# Altium integrated library Altera MAX V.IntLib: 184 symbols (part 1 of 16)
Pins are listed as number, name and electrical type; pins without a type are passive.

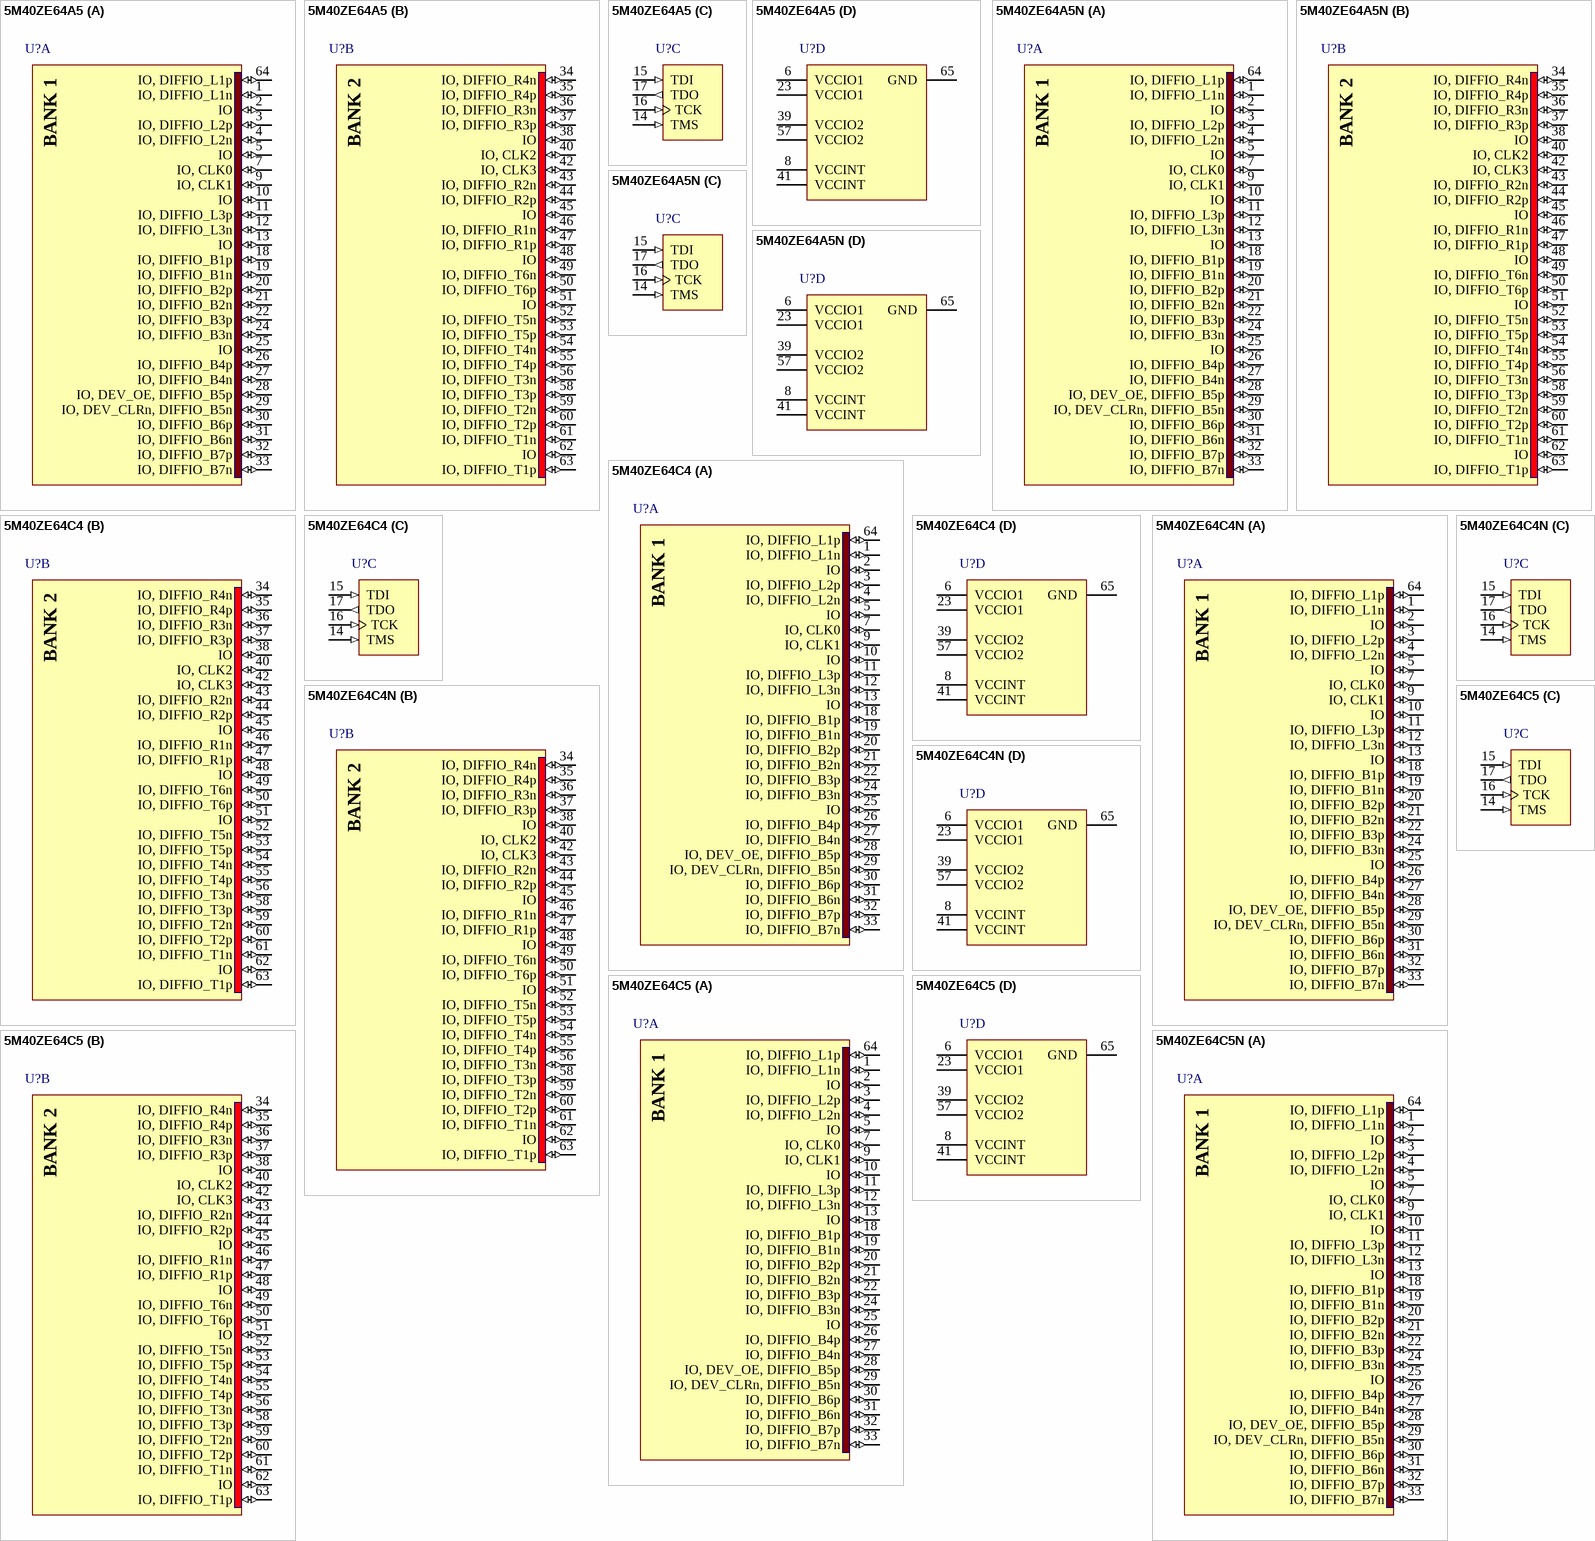
[diagram p0: symbols 5M40ZE64A5 to 5M40ZE64C5N]

## 5M40ZE64A5
designator U?
MAX V 1.8V CPLD, 54 IOs, 40 Logic Elements, 64-Pin EQFP, Automotive Temperature, Speed Grade 5; DatasheetVersion: ver1.2, May-2011; PackageVersion: ver1.0, Jul-2011; PackageReference: EQFP64_A-120_D2-45; PackageDescription: 64-Pin Plastic Enhanced Quad Flat (EQFP) - Wire Bond - A:1.20 - D2:4.5; Code_JEDEC: MS-026-ABD-HD; ComponentLink1Description: Manufacturer URL; ComponentLink1URL: http://www.altera.com/; ComponentLink2Description: Datasheet; ComponentLink2URL: http://www.altera.com/literature/hb/max-v/max5_handbook.pdf; ComponentLink3Description: MAX V Device Pin-Out files; ComponentLink3URL: http://www.altera.com/literature/lit-dp.jsp?category=MAX%205&showspreadsheet=y; ComponentLink4Description: Package Specification; ComponentLink4URL: http://www.altera.com/devicepackaging/04R00384-01.pdf
footprint EQFP64_A-120_D2-45_N (Thin QFP, 64-Leads, Body 7x7mm, Pitch 0.4mm, Thermal Pad, IPC Medium Density)
footprint EQFP64_A-120_D2-45_L (Thin QFP, 64-Leads, Body 7x7mm, Pitch 0.4mm, Thermal Pad, IPC High Density)
footprint EQFP64_A-120_D2-45_M (Thin QFP, 64-Leads, Body 7x7mm, Pitch 0.4mm, Thermal Pad, IPC Low Density)
part A pins: 1 IO, DIFFIO_L1n (io), 2 IO (io), 3 IO, DIFFIO_L2p (io), 4 IO, DIFFIO_L2n (io), 5 IO (io), 7 IO, CLK0 (io), 9 IO, CLK1 (io), 10 IO (io), 11 IO, DIFFIO_L3p (io), 12 IO, DIFFIO_L3n (io), 13 IO (io), 18 IO, DIFFIO_B1p (io), 19 IO, DIFFIO_B1n (io), 20 IO, DIFFIO_B2p (io), 21 IO, DIFFIO_B2n (io), 22 IO, DIFFIO_B3p (io), 24 IO, DIFFIO_B3n (io), 25 IO (io), 26 IO, DIFFIO_B4p (io), 27 IO, DIFFIO_B4n (io), 28 IO, DEV_OE, DIFFIO_B5p (io), 29 IO, DEV_CLRn, DIFFIO_B5n (io), 30 IO, DIFFIO_B6p (io), 31 IO, DIFFIO_B6n (io), 32 IO, DIFFIO_B7p (io), 33 IO, DIFFIO_B7n (io), 64 IO, DIFFIO_L1p (io)
part B pins: 34 IO, DIFFIO_R4n (io), 35 IO, DIFFIO_R4p (io), 36 IO, DIFFIO_R3n (io), 37 IO, DIFFIO_R3p (io), 38 IO (io), 40 IO, CLK2 (io), 42 IO, CLK3 (io), 43 IO, DIFFIO_R2n (io), 44 IO, DIFFIO_R2p (io), 45 IO (io), 46 IO, DIFFIO_R1n (io), 47 IO, DIFFIO_R1p (io), 48 IO (io), 49 IO, DIFFIO_T6n (io), 50 IO, DIFFIO_T6p (io), 51 IO (io), 52 IO, DIFFIO_T5n (io), 53 IO, DIFFIO_T5p (io), 54 IO, DIFFIO_T4n (io), 55 IO, DIFFIO_T4p (io), 56 IO, DIFFIO_T3n (io), 58 IO, DIFFIO_T3p (io), 59 IO, DIFFIO_T2n (io), 60 IO, DIFFIO_T2p (io), 61 IO, DIFFIO_T1n (io), 62 IO (io), 63 IO, DIFFIO_T1p (io)
part C pins: 14 TMS (in), 15 TDI (in), 16 TCK (in), 17 TDO (out)
part D pins: 6 VCCIO1 (power), 8 VCCINT (power), 23 VCCIO1 (power), 39 VCCIO2 (power), 41 VCCINT (power), 57 VCCIO2 (power), 65 GND (power)
part A text: BANK 1
part B text: BANK 2

## 5M40ZE64A5N
designator U?
MAX V 1.8V CPLD, 54 IOs, 40 Logic Elements, 64-Pin EQFP, Automotive Temperature, Speed Grade 5, Pb-Free; DatasheetVersion: ver1.2, May-2011; PackageVersion: ver1.0, Jul-2011; PackageReference: EQFP64_A-120_D2-45; PackageDescription: 64-Pin Plastic Enhanced Quad Flat (EQFP) - Wire Bond - A:1.20 - D2:4.5; Code_JEDEC: MS-026-ABD-HD; ComponentLink1Description: Manufacturer URL; ComponentLink1URL: http://www.altera.com/; ComponentLink2Description: Datasheet; ComponentLink2URL: http://www.altera.com/literature/hb/max-v/max5_handbook.pdf; ComponentLink3Description: MAX V Device Pin-Out files; ComponentLink3URL: http://www.altera.com/literature/lit-dp.jsp?category=MAX%205&showspreadsheet=y; ComponentLink4Description: Package Specification; ComponentLink4URL: http://www.altera.com/devicepackaging/04R00384-01.pdf
footprint EQFP64_A-120_D2-45_N (Thin QFP, 64-Leads, Body 7x7mm, Pitch 0.4mm, Thermal Pad, IPC Medium Density)
footprint EQFP64_A-120_D2-45_L (Thin QFP, 64-Leads, Body 7x7mm, Pitch 0.4mm, Thermal Pad, IPC High Density)
footprint EQFP64_A-120_D2-45_M (Thin QFP, 64-Leads, Body 7x7mm, Pitch 0.4mm, Thermal Pad, IPC Low Density)
part A pins: 1 IO, DIFFIO_L1n (io), 2 IO (io), 3 IO, DIFFIO_L2p (io), 4 IO, DIFFIO_L2n (io), 5 IO (io), 7 IO, CLK0 (io), 9 IO, CLK1 (io), 10 IO (io), 11 IO, DIFFIO_L3p (io), 12 IO, DIFFIO_L3n (io), 13 IO (io), 18 IO, DIFFIO_B1p (io), 19 IO, DIFFIO_B1n (io), 20 IO, DIFFIO_B2p (io), 21 IO, DIFFIO_B2n (io), 22 IO, DIFFIO_B3p (io), 24 IO, DIFFIO_B3n (io), 25 IO (io), 26 IO, DIFFIO_B4p (io), 27 IO, DIFFIO_B4n (io), 28 IO, DEV_OE, DIFFIO_B5p (io), 29 IO, DEV_CLRn, DIFFIO_B5n (io), 30 IO, DIFFIO_B6p (io), 31 IO, DIFFIO_B6n (io), 32 IO, DIFFIO_B7p (io), 33 IO, DIFFIO_B7n (io), 64 IO, DIFFIO_L1p (io)
part B pins: 34 IO, DIFFIO_R4n (io), 35 IO, DIFFIO_R4p (io), 36 IO, DIFFIO_R3n (io), 37 IO, DIFFIO_R3p (io), 38 IO (io), 40 IO, CLK2 (io), 42 IO, CLK3 (io), 43 IO, DIFFIO_R2n (io), 44 IO, DIFFIO_R2p (io), 45 IO (io), 46 IO, DIFFIO_R1n (io), 47 IO, DIFFIO_R1p (io), 48 IO (io), 49 IO, DIFFIO_T6n (io), 50 IO, DIFFIO_T6p (io), 51 IO (io), 52 IO, DIFFIO_T5n (io), 53 IO, DIFFIO_T5p (io), 54 IO, DIFFIO_T4n (io), 55 IO, DIFFIO_T4p (io), 56 IO, DIFFIO_T3n (io), 58 IO, DIFFIO_T3p (io), 59 IO, DIFFIO_T2n (io), 60 IO, DIFFIO_T2p (io), 61 IO, DIFFIO_T1n (io), 62 IO (io), 63 IO, DIFFIO_T1p (io)
part C pins: 14 TMS (in), 15 TDI (in), 16 TCK (in), 17 TDO (out)
part D pins: 6 VCCIO1 (power), 8 VCCINT (power), 23 VCCIO1 (power), 39 VCCIO2 (power), 41 VCCINT (power), 57 VCCIO2 (power), 65 GND (power)
part A text: BANK 1
part B text: BANK 2

## 5M40ZE64C4
designator U?
MAX V 1.8V CPLD, 54 IOs, 40 Logic Elements, 64-Pin EQFP, Commercial Temperature, Speed Grade 4; DatasheetVersion: ver1.2, May-2011; PackageVersion: ver1.0, Jul-2011; PackageReference: EQFP64_A-120_D2-45; PackageDescription: 64-Pin Plastic Enhanced Quad Flat (EQFP) - Wire Bond - A:1.20 - D2:4.5; Code_JEDEC: MS-026-ABD-HD; ComponentLink1Description: Manufacturer URL; ComponentLink1URL: http://www.altera.com/; ComponentLink2Description: Datasheet; ComponentLink2URL: http://www.altera.com/literature/hb/max-v/max5_handbook.pdf; ComponentLink3Description: MAX V Device Pin-Out files; ComponentLink3URL: http://www.altera.com/literature/lit-dp.jsp?category=MAX%205&showspreadsheet=y; ComponentLink4Description: Package Specification; ComponentLink4URL: http://www.altera.com/devicepackaging/04R00384-01.pdf
footprint EQFP64_A-120_D2-45_N (Thin QFP, 64-Leads, Body 7x7mm, Pitch 0.4mm, Thermal Pad, IPC Medium Density)
footprint EQFP64_A-120_D2-45_L (Thin QFP, 64-Leads, Body 7x7mm, Pitch 0.4mm, Thermal Pad, IPC High Density)
footprint EQFP64_A-120_D2-45_M (Thin QFP, 64-Leads, Body 7x7mm, Pitch 0.4mm, Thermal Pad, IPC Low Density)
part A pins: 1 IO, DIFFIO_L1n (io), 2 IO (io), 3 IO, DIFFIO_L2p (io), 4 IO, DIFFIO_L2n (io), 5 IO (io), 7 IO, CLK0 (io), 9 IO, CLK1 (io), 10 IO (io), 11 IO, DIFFIO_L3p (io), 12 IO, DIFFIO_L3n (io), 13 IO (io), 18 IO, DIFFIO_B1p (io), 19 IO, DIFFIO_B1n (io), 20 IO, DIFFIO_B2p (io), 21 IO, DIFFIO_B2n (io), 22 IO, DIFFIO_B3p (io), 24 IO, DIFFIO_B3n (io), 25 IO (io), 26 IO, DIFFIO_B4p (io), 27 IO, DIFFIO_B4n (io), 28 IO, DEV_OE, DIFFIO_B5p (io), 29 IO, DEV_CLRn, DIFFIO_B5n (io), 30 IO, DIFFIO_B6p (io), 31 IO, DIFFIO_B6n (io), 32 IO, DIFFIO_B7p (io), 33 IO, DIFFIO_B7n (io), 64 IO, DIFFIO_L1p (io)
part B pins: 34 IO, DIFFIO_R4n (io), 35 IO, DIFFIO_R4p (io), 36 IO, DIFFIO_R3n (io), 37 IO, DIFFIO_R3p (io), 38 IO (io), 40 IO, CLK2 (io), 42 IO, CLK3 (io), 43 IO, DIFFIO_R2n (io), 44 IO, DIFFIO_R2p (io), 45 IO (io), 46 IO, DIFFIO_R1n (io), 47 IO, DIFFIO_R1p (io), 48 IO (io), 49 IO, DIFFIO_T6n (io), 50 IO, DIFFIO_T6p (io), 51 IO (io), 52 IO, DIFFIO_T5n (io), 53 IO, DIFFIO_T5p (io), 54 IO, DIFFIO_T4n (io), 55 IO, DIFFIO_T4p (io), 56 IO, DIFFIO_T3n (io), 58 IO, DIFFIO_T3p (io), 59 IO, DIFFIO_T2n (io), 60 IO, DIFFIO_T2p (io), 61 IO, DIFFIO_T1n (io), 62 IO (io), 63 IO, DIFFIO_T1p (io)
part C pins: 14 TMS (in), 15 TDI (in), 16 TCK (in), 17 TDO (out)
part D pins: 6 VCCIO1 (power), 8 VCCINT (power), 23 VCCIO1 (power), 39 VCCIO2 (power), 41 VCCINT (power), 57 VCCIO2 (power), 65 GND (power)
part A text: BANK 1
part B text: BANK 2

## 5M40ZE64C4N
designator U?
MAX V 1.8V CPLD, 54 IOs, 40 Logic Elements, 64-Pin EQFP, Commercial Temperature, Speed Grade 4, Pb-Free; DatasheetVersion: ver1.2, May-2011; PackageVersion: ver1.0, Jul-2011; PackageReference: EQFP64_A-120_D2-45; PackageDescription: 64-Pin Plastic Enhanced Quad Flat (EQFP) - Wire Bond - A:1.20 - D2:4.5; Code_JEDEC: MS-026-ABD-HD; ComponentLink1Description: Manufacturer URL; ComponentLink1URL: http://www.altera.com/; ComponentLink2Description: Datasheet; ComponentLink2URL: http://www.altera.com/literature/hb/max-v/max5_handbook.pdf; ComponentLink3Description: MAX V Device Pin-Out files; ComponentLink3URL: http://www.altera.com/literature/lit-dp.jsp?category=MAX%205&showspreadsheet=y; ComponentLink4Description: Package Specification; ComponentLink4URL: http://www.altera.com/devicepackaging/04R00384-01.pdf
footprint EQFP64_A-120_D2-45_N (Thin QFP, 64-Leads, Body 7x7mm, Pitch 0.4mm, Thermal Pad, IPC Medium Density)
footprint EQFP64_A-120_D2-45_L (Thin QFP, 64-Leads, Body 7x7mm, Pitch 0.4mm, Thermal Pad, IPC High Density)
footprint EQFP64_A-120_D2-45_M (Thin QFP, 64-Leads, Body 7x7mm, Pitch 0.4mm, Thermal Pad, IPC Low Density)
part A pins: 1 IO, DIFFIO_L1n (io), 2 IO (io), 3 IO, DIFFIO_L2p (io), 4 IO, DIFFIO_L2n (io), 5 IO (io), 7 IO, CLK0 (io), 9 IO, CLK1 (io), 10 IO (io), 11 IO, DIFFIO_L3p (io), 12 IO, DIFFIO_L3n (io), 13 IO (io), 18 IO, DIFFIO_B1p (io), 19 IO, DIFFIO_B1n (io), 20 IO, DIFFIO_B2p (io), 21 IO, DIFFIO_B2n (io), 22 IO, DIFFIO_B3p (io), 24 IO, DIFFIO_B3n (io), 25 IO (io), 26 IO, DIFFIO_B4p (io), 27 IO, DIFFIO_B4n (io), 28 IO, DEV_OE, DIFFIO_B5p (io), 29 IO, DEV_CLRn, DIFFIO_B5n (io), 30 IO, DIFFIO_B6p (io), 31 IO, DIFFIO_B6n (io), 32 IO, DIFFIO_B7p (io), 33 IO, DIFFIO_B7n (io), 64 IO, DIFFIO_L1p (io)
part B pins: 34 IO, DIFFIO_R4n (io), 35 IO, DIFFIO_R4p (io), 36 IO, DIFFIO_R3n (io), 37 IO, DIFFIO_R3p (io), 38 IO (io), 40 IO, CLK2 (io), 42 IO, CLK3 (io), 43 IO, DIFFIO_R2n (io), 44 IO, DIFFIO_R2p (io), 45 IO (io), 46 IO, DIFFIO_R1n (io), 47 IO, DIFFIO_R1p (io), 48 IO (io), 49 IO, DIFFIO_T6n (io), 50 IO, DIFFIO_T6p (io), 51 IO (io), 52 IO, DIFFIO_T5n (io), 53 IO, DIFFIO_T5p (io), 54 IO, DIFFIO_T4n (io), 55 IO, DIFFIO_T4p (io), 56 IO, DIFFIO_T3n (io), 58 IO, DIFFIO_T3p (io), 59 IO, DIFFIO_T2n (io), 60 IO, DIFFIO_T2p (io), 61 IO, DIFFIO_T1n (io), 62 IO (io), 63 IO, DIFFIO_T1p (io)
part C pins: 14 TMS (in), 15 TDI (in), 16 TCK (in), 17 TDO (out)
part D pins: 6 VCCIO1 (power), 8 VCCINT (power), 23 VCCIO1 (power), 39 VCCIO2 (power), 41 VCCINT (power), 57 VCCIO2 (power), 65 GND (power)
part A text: BANK 1
part B text: BANK 2

## 5M40ZE64C5
designator U?
MAX V 1.8V CPLD, 54 IOs, 40 Logic Elements, 64-Pin EQFP, Commercial Temperature, Speed Grade 5; DatasheetVersion: ver1.2, May-2011; PackageVersion: ver1.0, Jul-2011; PackageReference: EQFP64_A-120_D2-45; PackageDescription: 64-Pin Plastic Enhanced Quad Flat (EQFP) - Wire Bond - A:1.20 - D2:4.5; Code_JEDEC: MS-026-ABD-HD; ComponentLink1Description: Manufacturer URL; ComponentLink1URL: http://www.altera.com/; ComponentLink2Description: Datasheet; ComponentLink2URL: http://www.altera.com/literature/hb/max-v/max5_handbook.pdf; ComponentLink3Description: MAX V Device Pin-Out files; ComponentLink3URL: http://www.altera.com/literature/lit-dp.jsp?category=MAX%205&showspreadsheet=y; ComponentLink4Description: Package Specification; ComponentLink4URL: http://www.altera.com/devicepackaging/04R00384-01.pdf
footprint EQFP64_A-120_D2-45_N (Thin QFP, 64-Leads, Body 7x7mm, Pitch 0.4mm, Thermal Pad, IPC Medium Density)
footprint EQFP64_A-120_D2-45_L (Thin QFP, 64-Leads, Body 7x7mm, Pitch 0.4mm, Thermal Pad, IPC High Density)
footprint EQFP64_A-120_D2-45_M (Thin QFP, 64-Leads, Body 7x7mm, Pitch 0.4mm, Thermal Pad, IPC Low Density)
part A pins: 1 IO, DIFFIO_L1n (io), 2 IO (io), 3 IO, DIFFIO_L2p (io), 4 IO, DIFFIO_L2n (io), 5 IO (io), 7 IO, CLK0 (io), 9 IO, CLK1 (io), 10 IO (io), 11 IO, DIFFIO_L3p (io), 12 IO, DIFFIO_L3n (io), 13 IO (io), 18 IO, DIFFIO_B1p (io), 19 IO, DIFFIO_B1n (io), 20 IO, DIFFIO_B2p (io), 21 IO, DIFFIO_B2n (io), 22 IO, DIFFIO_B3p (io), 24 IO, DIFFIO_B3n (io), 25 IO (io), 26 IO, DIFFIO_B4p (io), 27 IO, DIFFIO_B4n (io), 28 IO, DEV_OE, DIFFIO_B5p (io), 29 IO, DEV_CLRn, DIFFIO_B5n (io), 30 IO, DIFFIO_B6p (io), 31 IO, DIFFIO_B6n (io), 32 IO, DIFFIO_B7p (io), 33 IO, DIFFIO_B7n (io), 64 IO, DIFFIO_L1p (io)
part B pins: 34 IO, DIFFIO_R4n (io), 35 IO, DIFFIO_R4p (io), 36 IO, DIFFIO_R3n (io), 37 IO, DIFFIO_R3p (io), 38 IO (io), 40 IO, CLK2 (io), 42 IO, CLK3 (io), 43 IO, DIFFIO_R2n (io), 44 IO, DIFFIO_R2p (io), 45 IO (io), 46 IO, DIFFIO_R1n (io), 47 IO, DIFFIO_R1p (io), 48 IO (io), 49 IO, DIFFIO_T6n (io), 50 IO, DIFFIO_T6p (io), 51 IO (io), 52 IO, DIFFIO_T5n (io), 53 IO, DIFFIO_T5p (io), 54 IO, DIFFIO_T4n (io), 55 IO, DIFFIO_T4p (io), 56 IO, DIFFIO_T3n (io), 58 IO, DIFFIO_T3p (io), 59 IO, DIFFIO_T2n (io), 60 IO, DIFFIO_T2p (io), 61 IO, DIFFIO_T1n (io), 62 IO (io), 63 IO, DIFFIO_T1p (io)
part C pins: 14 TMS (in), 15 TDI (in), 16 TCK (in), 17 TDO (out)
part D pins: 6 VCCIO1 (power), 8 VCCINT (power), 23 VCCIO1 (power), 39 VCCIO2 (power), 41 VCCINT (power), 57 VCCIO2 (power), 65 GND (power)
part A text: BANK 1
part B text: BANK 2

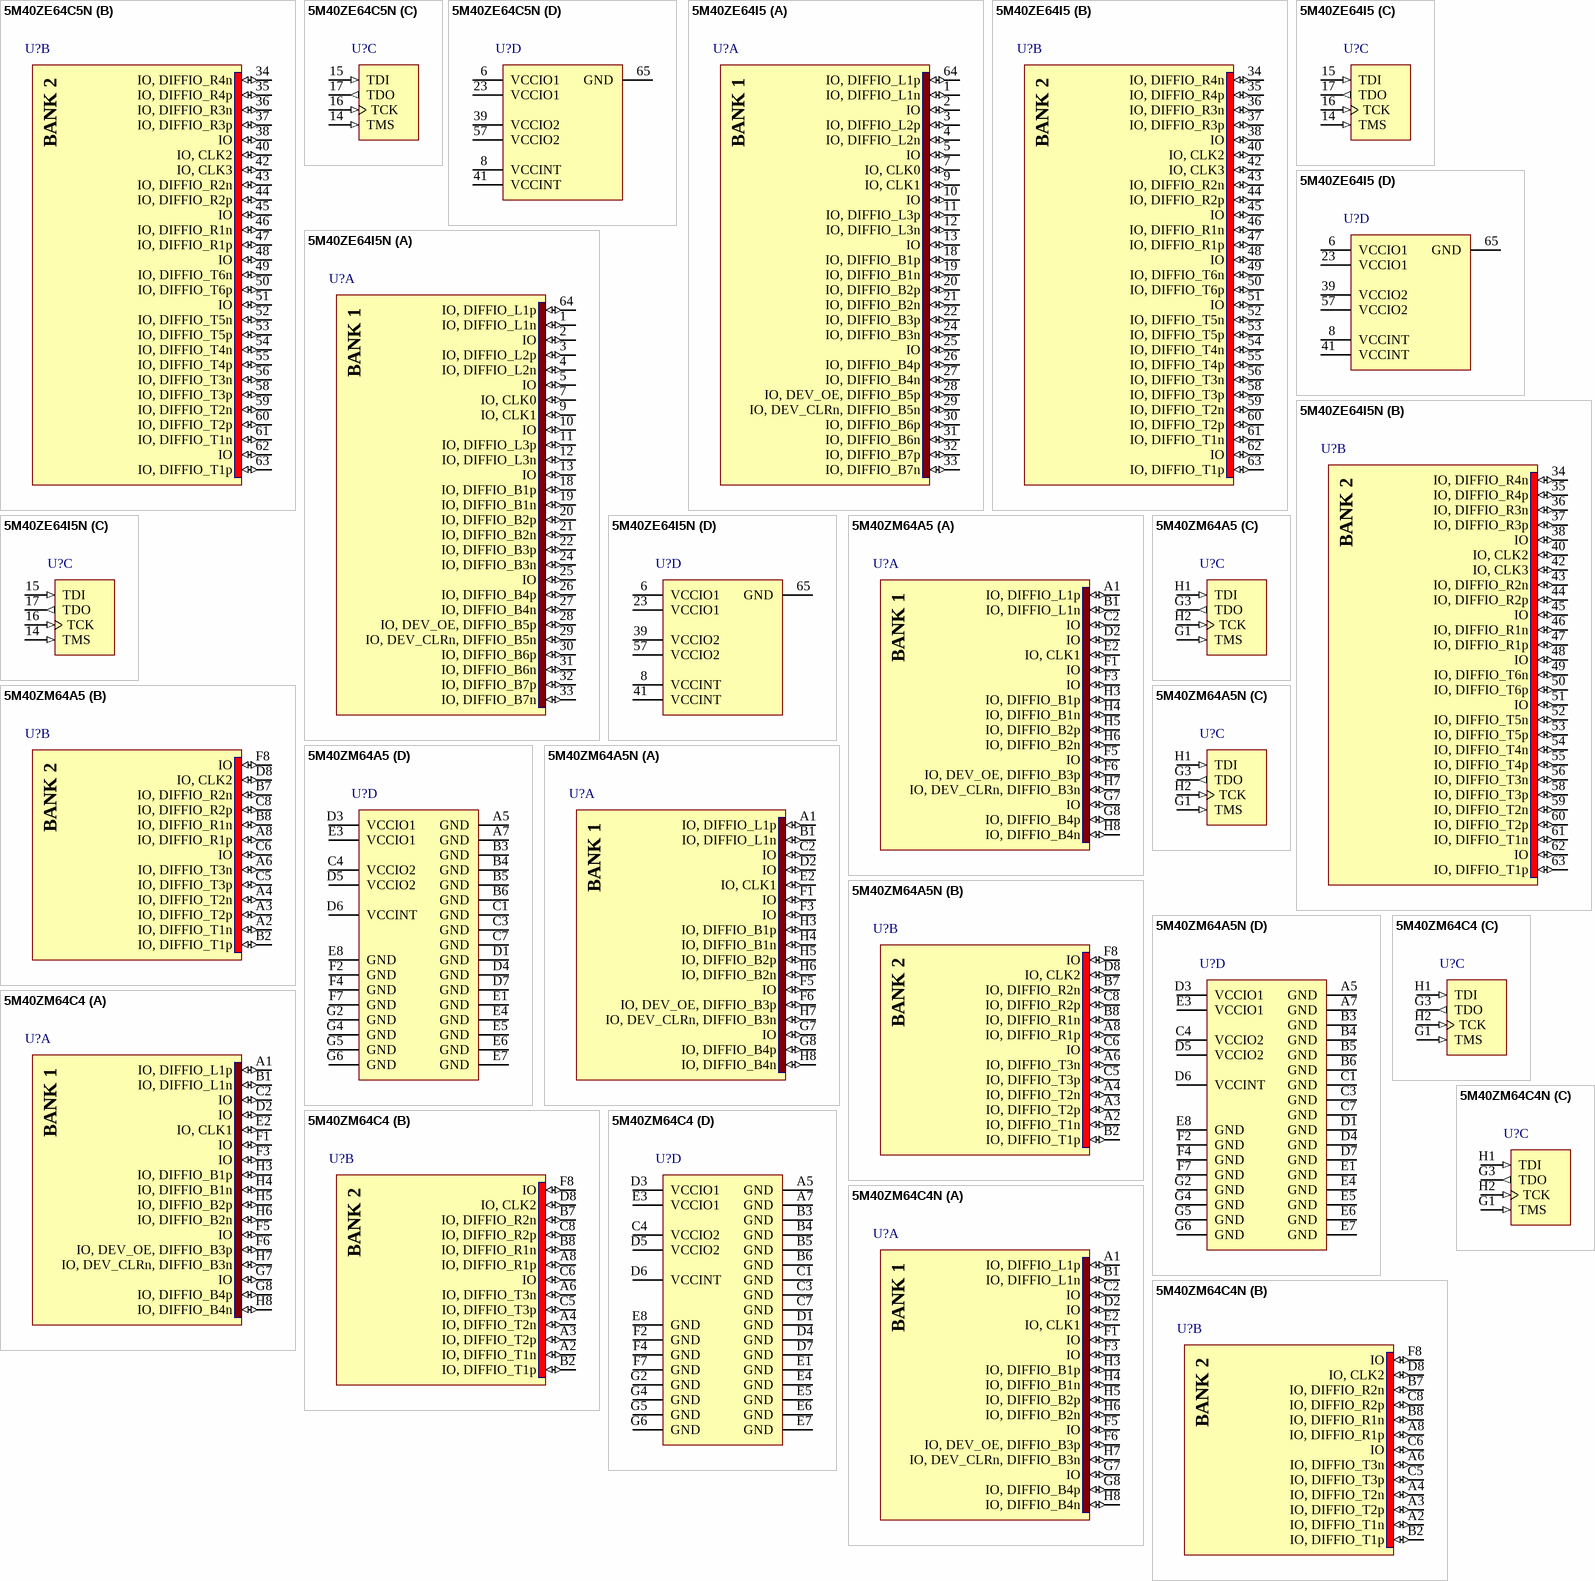
[diagram p1: symbols 5M40ZE64C5N to 5M40ZM64C4N]

## 5M40ZE64C5N
designator U?
MAX V 1.8V CPLD, 54 IOs, 40 Logic Elements, 64-Pin EQFP, Commercial Temperature, Speed Grade 5, Pb-Free; DatasheetVersion: ver1.2, May-2011; PackageVersion: ver1.0, Jul-2011; PackageReference: EQFP64_A-120_D2-45; PackageDescription: 64-Pin Plastic Enhanced Quad Flat (EQFP) - Wire Bond - A:1.20 - D2:4.5; Code_JEDEC: MS-026-ABD-HD; ComponentLink1Description: Manufacturer URL; ComponentLink1URL: http://www.altera.com/; ComponentLink2Description: Datasheet; ComponentLink2URL: http://www.altera.com/literature/hb/max-v/max5_handbook.pdf; ComponentLink3Description: MAX V Device Pin-Out files; ComponentLink3URL: http://www.altera.com/literature/lit-dp.jsp?category=MAX%205&showspreadsheet=y; ComponentLink4Description: Package Specification; ComponentLink4URL: http://www.altera.com/devicepackaging/04R00384-01.pdf
footprint EQFP64_A-120_D2-45_N (Thin QFP, 64-Leads, Body 7x7mm, Pitch 0.4mm, Thermal Pad, IPC Medium Density)
footprint EQFP64_A-120_D2-45_L (Thin QFP, 64-Leads, Body 7x7mm, Pitch 0.4mm, Thermal Pad, IPC High Density)
footprint EQFP64_A-120_D2-45_M (Thin QFP, 64-Leads, Body 7x7mm, Pitch 0.4mm, Thermal Pad, IPC Low Density)
part A pins: 1 IO, DIFFIO_L1n (io), 2 IO (io), 3 IO, DIFFIO_L2p (io), 4 IO, DIFFIO_L2n (io), 5 IO (io), 7 IO, CLK0 (io), 9 IO, CLK1 (io), 10 IO (io), 11 IO, DIFFIO_L3p (io), 12 IO, DIFFIO_L3n (io), 13 IO (io), 18 IO, DIFFIO_B1p (io), 19 IO, DIFFIO_B1n (io), 20 IO, DIFFIO_B2p (io), 21 IO, DIFFIO_B2n (io), 22 IO, DIFFIO_B3p (io), 24 IO, DIFFIO_B3n (io), 25 IO (io), 26 IO, DIFFIO_B4p (io), 27 IO, DIFFIO_B4n (io), 28 IO, DEV_OE, DIFFIO_B5p (io), 29 IO, DEV_CLRn, DIFFIO_B5n (io), 30 IO, DIFFIO_B6p (io), 31 IO, DIFFIO_B6n (io), 32 IO, DIFFIO_B7p (io), 33 IO, DIFFIO_B7n (io), 64 IO, DIFFIO_L1p (io)
part B pins: 34 IO, DIFFIO_R4n (io), 35 IO, DIFFIO_R4p (io), 36 IO, DIFFIO_R3n (io), 37 IO, DIFFIO_R3p (io), 38 IO (io), 40 IO, CLK2 (io), 42 IO, CLK3 (io), 43 IO, DIFFIO_R2n (io), 44 IO, DIFFIO_R2p (io), 45 IO (io), 46 IO, DIFFIO_R1n (io), 47 IO, DIFFIO_R1p (io), 48 IO (io), 49 IO, DIFFIO_T6n (io), 50 IO, DIFFIO_T6p (io), 51 IO (io), 52 IO, DIFFIO_T5n (io), 53 IO, DIFFIO_T5p (io), 54 IO, DIFFIO_T4n (io), 55 IO, DIFFIO_T4p (io), 56 IO, DIFFIO_T3n (io), 58 IO, DIFFIO_T3p (io), 59 IO, DIFFIO_T2n (io), 60 IO, DIFFIO_T2p (io), 61 IO, DIFFIO_T1n (io), 62 IO (io), 63 IO, DIFFIO_T1p (io)
part C pins: 14 TMS (in), 15 TDI (in), 16 TCK (in), 17 TDO (out)
part D pins: 6 VCCIO1 (power), 8 VCCINT (power), 23 VCCIO1 (power), 39 VCCIO2 (power), 41 VCCINT (power), 57 VCCIO2 (power), 65 GND (power)
part A text: BANK 1
part B text: BANK 2

## 5M40ZE64I5
designator U?
MAX V 1.8V CPLD, 54 IOs, 40 Logic Elements, 64-Pin EQFP, Industrial Temperature, Speed Grade 5; DatasheetVersion: ver1.2, May-2011; PackageVersion: ver1.0, Jul-2011; PackageReference: EQFP64_A-120_D2-45; PackageDescription: 64-Pin Plastic Enhanced Quad Flat (EQFP) - Wire Bond - A:1.20 - D2:4.5; Code_JEDEC: MS-026-ABD-HD; ComponentLink1Description: Manufacturer URL; ComponentLink1URL: http://www.altera.com/; ComponentLink2Description: Datasheet; ComponentLink2URL: http://www.altera.com/literature/hb/max-v/max5_handbook.pdf; ComponentLink3Description: MAX V Device Pin-Out files; ComponentLink3URL: http://www.altera.com/literature/lit-dp.jsp?category=MAX%205&showspreadsheet=y; ComponentLink4Description: Package Specification; ComponentLink4URL: http://www.altera.com/devicepackaging/04R00384-01.pdf
footprint EQFP64_A-120_D2-45_N (Thin QFP, 64-Leads, Body 7x7mm, Pitch 0.4mm, Thermal Pad, IPC Medium Density)
footprint EQFP64_A-120_D2-45_L (Thin QFP, 64-Leads, Body 7x7mm, Pitch 0.4mm, Thermal Pad, IPC High Density)
footprint EQFP64_A-120_D2-45_M (Thin QFP, 64-Leads, Body 7x7mm, Pitch 0.4mm, Thermal Pad, IPC Low Density)
part A pins: 1 IO, DIFFIO_L1n (io), 2 IO (io), 3 IO, DIFFIO_L2p (io), 4 IO, DIFFIO_L2n (io), 5 IO (io), 7 IO, CLK0 (io), 9 IO, CLK1 (io), 10 IO (io), 11 IO, DIFFIO_L3p (io), 12 IO, DIFFIO_L3n (io), 13 IO (io), 18 IO, DIFFIO_B1p (io), 19 IO, DIFFIO_B1n (io), 20 IO, DIFFIO_B2p (io), 21 IO, DIFFIO_B2n (io), 22 IO, DIFFIO_B3p (io), 24 IO, DIFFIO_B3n (io), 25 IO (io), 26 IO, DIFFIO_B4p (io), 27 IO, DIFFIO_B4n (io), 28 IO, DEV_OE, DIFFIO_B5p (io), 29 IO, DEV_CLRn, DIFFIO_B5n (io), 30 IO, DIFFIO_B6p (io), 31 IO, DIFFIO_B6n (io), 32 IO, DIFFIO_B7p (io), 33 IO, DIFFIO_B7n (io), 64 IO, DIFFIO_L1p (io)
part B pins: 34 IO, DIFFIO_R4n (io), 35 IO, DIFFIO_R4p (io), 36 IO, DIFFIO_R3n (io), 37 IO, DIFFIO_R3p (io), 38 IO (io), 40 IO, CLK2 (io), 42 IO, CLK3 (io), 43 IO, DIFFIO_R2n (io), 44 IO, DIFFIO_R2p (io), 45 IO (io), 46 IO, DIFFIO_R1n (io), 47 IO, DIFFIO_R1p (io), 48 IO (io), 49 IO, DIFFIO_T6n (io), 50 IO, DIFFIO_T6p (io), 51 IO (io), 52 IO, DIFFIO_T5n (io), 53 IO, DIFFIO_T5p (io), 54 IO, DIFFIO_T4n (io), 55 IO, DIFFIO_T4p (io), 56 IO, DIFFIO_T3n (io), 58 IO, DIFFIO_T3p (io), 59 IO, DIFFIO_T2n (io), 60 IO, DIFFIO_T2p (io), 61 IO, DIFFIO_T1n (io), 62 IO (io), 63 IO, DIFFIO_T1p (io)
part C pins: 14 TMS (in), 15 TDI (in), 16 TCK (in), 17 TDO (out)
part D pins: 6 VCCIO1 (power), 8 VCCINT (power), 23 VCCIO1 (power), 39 VCCIO2 (power), 41 VCCINT (power), 57 VCCIO2 (power), 65 GND (power)
part A text: BANK 1
part B text: BANK 2

## 5M40ZE64I5N
designator U?
MAX V 1.8V CPLD, 54 IOs, 40 Logic Elements, 64-Pin EQFP, Industrial Temperature, Speed Grade 5, Pb-Free; DatasheetVersion: ver1.2, May-2011; PackageVersion: ver1.0, Jul-2011; PackageReference: EQFP64_A-120_D2-45; PackageDescription: 64-Pin Plastic Enhanced Quad Flat (EQFP) - Wire Bond - A:1.20 - D2:4.5; Code_JEDEC: MS-026-ABD-HD; ComponentLink1Description: Manufacturer URL; ComponentLink1URL: http://www.altera.com/; ComponentLink2Description: Datasheet; ComponentLink2URL: http://www.altera.com/literature/hb/max-v/max5_handbook.pdf; ComponentLink3Description: MAX V Device Pin-Out files; ComponentLink3URL: http://www.altera.com/literature/lit-dp.jsp?category=MAX%205&showspreadsheet=y; ComponentLink4Description: Package Specification; ComponentLink4URL: http://www.altera.com/devicepackaging/04R00384-01.pdf
footprint EQFP64_A-120_D2-45_N (Thin QFP, 64-Leads, Body 7x7mm, Pitch 0.4mm, Thermal Pad, IPC Medium Density)
footprint EQFP64_A-120_D2-45_L (Thin QFP, 64-Leads, Body 7x7mm, Pitch 0.4mm, Thermal Pad, IPC High Density)
footprint EQFP64_A-120_D2-45_M (Thin QFP, 64-Leads, Body 7x7mm, Pitch 0.4mm, Thermal Pad, IPC Low Density)
part A pins: 1 IO, DIFFIO_L1n (io), 2 IO (io), 3 IO, DIFFIO_L2p (io), 4 IO, DIFFIO_L2n (io), 5 IO (io), 7 IO, CLK0 (io), 9 IO, CLK1 (io), 10 IO (io), 11 IO, DIFFIO_L3p (io), 12 IO, DIFFIO_L3n (io), 13 IO (io), 18 IO, DIFFIO_B1p (io), 19 IO, DIFFIO_B1n (io), 20 IO, DIFFIO_B2p (io), 21 IO, DIFFIO_B2n (io), 22 IO, DIFFIO_B3p (io), 24 IO, DIFFIO_B3n (io), 25 IO (io), 26 IO, DIFFIO_B4p (io), 27 IO, DIFFIO_B4n (io), 28 IO, DEV_OE, DIFFIO_B5p (io), 29 IO, DEV_CLRn, DIFFIO_B5n (io), 30 IO, DIFFIO_B6p (io), 31 IO, DIFFIO_B6n (io), 32 IO, DIFFIO_B7p (io), 33 IO, DIFFIO_B7n (io), 64 IO, DIFFIO_L1p (io)
part B pins: 34 IO, DIFFIO_R4n (io), 35 IO, DIFFIO_R4p (io), 36 IO, DIFFIO_R3n (io), 37 IO, DIFFIO_R3p (io), 38 IO (io), 40 IO, CLK2 (io), 42 IO, CLK3 (io), 43 IO, DIFFIO_R2n (io), 44 IO, DIFFIO_R2p (io), 45 IO (io), 46 IO, DIFFIO_R1n (io), 47 IO, DIFFIO_R1p (io), 48 IO (io), 49 IO, DIFFIO_T6n (io), 50 IO, DIFFIO_T6p (io), 51 IO (io), 52 IO, DIFFIO_T5n (io), 53 IO, DIFFIO_T5p (io), 54 IO, DIFFIO_T4n (io), 55 IO, DIFFIO_T4p (io), 56 IO, DIFFIO_T3n (io), 58 IO, DIFFIO_T3p (io), 59 IO, DIFFIO_T2n (io), 60 IO, DIFFIO_T2p (io), 61 IO, DIFFIO_T1n (io), 62 IO (io), 63 IO, DIFFIO_T1p (io)
part C pins: 14 TMS (in), 15 TDI (in), 16 TCK (in), 17 TDO (out)
part D pins: 6 VCCIO1 (power), 8 VCCINT (power), 23 VCCIO1 (power), 39 VCCIO2 (power), 41 VCCINT (power), 57 VCCIO2 (power), 65 GND (power)
part A text: BANK 1
part B text: BANK 2

## 5M40ZM64A5
designator U?
MAX V 1.8V CPLD, 30 IOs, 40 Logic Elements, 64-Pin MBGA, Automotive Temperature, Speed Grade 5; DatasheetVersion: ver1.2, May-2011; PackageVersion: ver1.0, Jul-2011; PackageReference: MBGA64_A-120; PackageDescription: 64-Pin Micro FineLine Ball-Grid Array (MBGA) - Wire Bond - A:1.20; Code_JEDEC: MO-195-BX; ComponentLink1Description: Manufacturer URL; ComponentLink1URL: http://www.altera.com/; ComponentLink2Description: Datasheet; ComponentLink2URL: http://www.altera.com/literature/hb/max-v/max5_handbook.pdf; ComponentLink3Description: MAX V Device Pin-Out files; ComponentLink3URL: http://www.altera.com/literature/lit-dp.jsp?category=MAX%205&showspreadsheet=y; ComponentLink4Description: Package Specification; ComponentLink4URL: http://www.altera.com/devicepackaging/04R00385-01.pdf
footprint MBGA64_A-120 (BGA, 64-Leads, Body 4.5x4.5mm, Pitch 0.5mm, Non-Solder Mask Defined Pads)
part A pins: A1 IO, DIFFIO_L1p (io), B1 IO, DIFFIO_L1n (io), C2 IO (io), D2 IO (io), E2 IO, CLK1 (io), F1 IO (io), F3 IO (io), F5 IO (io), F6 IO, DEV_OE, DIFFIO_B3p (io), G7 IO (io), G8 IO, DIFFIO_B4p (io), H3 IO, DIFFIO_B1p (io), H4 IO, DIFFIO_B1n (io), H5 IO, DIFFIO_B2p (io), H6 IO, DIFFIO_B2n (io), H7 IO, DEV_CLRn, DIFFIO_B3n (io), H8 IO, DIFFIO_B4n (io)
part B pins: A2 IO, DIFFIO_T1n (io), A3 IO, DIFFIO_T2p (io), A4 IO, DIFFIO_T2n (io), A6 IO, DIFFIO_T3n (io), A8 IO, DIFFIO_R1p (io), B2 IO, DIFFIO_T1p (io), B7 IO, DIFFIO_R2n (io), B8 IO, DIFFIO_R1n (io), C5 IO, DIFFIO_T3p (io), C6 IO (io), C8 IO, DIFFIO_R2p (io), D8 IO, CLK2 (io), F8 IO (io)
part C pins: G1 TMS (in), G3 TDO (out), H1 TDI (in), H2 TCK (in)
part D pins: A5 GND (power), A7 GND (power), B3 GND (power), B4 GND (power), B5 GND (power), B6 GND (power), C1 GND (power), C3 GND (power), C4 VCCIO2 (power), C7 GND (power), D1 GND (power), D3 VCCIO1 (power), D4 GND (power), D5 VCCIO2 (power), D6 VCCINT (power), D7 GND (power), E1 GND (power), E3 VCCIO1 (power), E4 GND (power), E5 GND (power), E6 GND (power), E7 GND (power), E8 GND (power), F2 GND (power), F4 GND (power), F7 GND (power), G2 GND (power), G4 GND (power), G5 GND (power), G6 GND (power)
part A text: BANK 1
part B text: BANK 2

## 5M40ZM64A5N
designator U?
MAX V 1.8V CPLD, 30 IOs, 40 Logic Elements, 64-Pin MBGA, Automotive Temperature, Speed Grade 5, Pb-Free; DatasheetVersion: ver1.2, May-2011; PackageVersion: ver1.0, Jul-2011; PackageReference: MBGA64_A-120; PackageDescription: 64-Pin Micro FineLine Ball-Grid Array (MBGA) - Wire Bond - A:1.20; Code_JEDEC: MO-195-BX; ComponentLink1Description: Manufacturer URL; ComponentLink1URL: http://www.altera.com/; ComponentLink2Description: Datasheet; ComponentLink2URL: http://www.altera.com/literature/hb/max-v/max5_handbook.pdf; ComponentLink3Description: MAX V Device Pin-Out files; ComponentLink3URL: http://www.altera.com/literature/lit-dp.jsp?category=MAX%205&showspreadsheet=y; ComponentLink4Description: Package Specification; ComponentLink4URL: http://www.altera.com/devicepackaging/04R00385-01.pdf
footprint MBGA64_A-120 (BGA, 64-Leads, Body 4.5x4.5mm, Pitch 0.5mm, Non-Solder Mask Defined Pads)
part A pins: A1 IO, DIFFIO_L1p (io), B1 IO, DIFFIO_L1n (io), C2 IO (io), D2 IO (io), E2 IO, CLK1 (io), F1 IO (io), F3 IO (io), F5 IO (io), F6 IO, DEV_OE, DIFFIO_B3p (io), G7 IO (io), G8 IO, DIFFIO_B4p (io), H3 IO, DIFFIO_B1p (io), H4 IO, DIFFIO_B1n (io), H5 IO, DIFFIO_B2p (io), H6 IO, DIFFIO_B2n (io), H7 IO, DEV_CLRn, DIFFIO_B3n (io), H8 IO, DIFFIO_B4n (io)
part B pins: A2 IO, DIFFIO_T1n (io), A3 IO, DIFFIO_T2p (io), A4 IO, DIFFIO_T2n (io), A6 IO, DIFFIO_T3n (io), A8 IO, DIFFIO_R1p (io), B2 IO, DIFFIO_T1p (io), B7 IO, DIFFIO_R2n (io), B8 IO, DIFFIO_R1n (io), C5 IO, DIFFIO_T3p (io), C6 IO (io), C8 IO, DIFFIO_R2p (io), D8 IO, CLK2 (io), F8 IO (io)
part C pins: G1 TMS (in), G3 TDO (out), H1 TDI (in), H2 TCK (in)
part D pins: A5 GND (power), A7 GND (power), B3 GND (power), B4 GND (power), B5 GND (power), B6 GND (power), C1 GND (power), C3 GND (power), C4 VCCIO2 (power), C7 GND (power), D1 GND (power), D3 VCCIO1 (power), D4 GND (power), D5 VCCIO2 (power), D6 VCCINT (power), D7 GND (power), E1 GND (power), E3 VCCIO1 (power), E4 GND (power), E5 GND (power), E6 GND (power), E7 GND (power), E8 GND (power), F2 GND (power), F4 GND (power), F7 GND (power), G2 GND (power), G4 GND (power), G5 GND (power), G6 GND (power)
part A text: BANK 1
part B text: BANK 2

## 5M40ZM64C4
designator U?
MAX V 1.8V CPLD, 30 IOs, 40 Logic Elements, 64-Pin MBGA, Commercial Temperature, Speed Grade 4; DatasheetVersion: ver1.2, May-2011; PackageVersion: ver1.0, Jul-2011; PackageReference: MBGA64_A-120; PackageDescription: 64-Pin Micro FineLine Ball-Grid Array (MBGA) - Wire Bond - A:1.20; Code_JEDEC: MO-195-BX; ComponentLink1Description: Manufacturer URL; ComponentLink1URL: http://www.altera.com/; ComponentLink2Description: Datasheet; ComponentLink2URL: http://www.altera.com/literature/hb/max-v/max5_handbook.pdf; ComponentLink3Description: MAX V Device Pin-Out files; ComponentLink3URL: http://www.altera.com/literature/lit-dp.jsp?category=MAX%205&showspreadsheet=y; ComponentLink4Description: Package Specification; ComponentLink4URL: http://www.altera.com/devicepackaging/04R00385-01.pdf
footprint MBGA64_A-120 (BGA, 64-Leads, Body 4.5x4.5mm, Pitch 0.5mm, Non-Solder Mask Defined Pads)
part A pins: A1 IO, DIFFIO_L1p (io), B1 IO, DIFFIO_L1n (io), C2 IO (io), D2 IO (io), E2 IO, CLK1 (io), F1 IO (io), F3 IO (io), F5 IO (io), F6 IO, DEV_OE, DIFFIO_B3p (io), G7 IO (io), G8 IO, DIFFIO_B4p (io), H3 IO, DIFFIO_B1p (io), H4 IO, DIFFIO_B1n (io), H5 IO, DIFFIO_B2p (io), H6 IO, DIFFIO_B2n (io), H7 IO, DEV_CLRn, DIFFIO_B3n (io), H8 IO, DIFFIO_B4n (io)
part B pins: A2 IO, DIFFIO_T1n (io), A3 IO, DIFFIO_T2p (io), A4 IO, DIFFIO_T2n (io), A6 IO, DIFFIO_T3n (io), A8 IO, DIFFIO_R1p (io), B2 IO, DIFFIO_T1p (io), B7 IO, DIFFIO_R2n (io), B8 IO, DIFFIO_R1n (io), C5 IO, DIFFIO_T3p (io), C6 IO (io), C8 IO, DIFFIO_R2p (io), D8 IO, CLK2 (io), F8 IO (io)
part C pins: G1 TMS (in), G3 TDO (out), H1 TDI (in), H2 TCK (in)
part D pins: A5 GND (power), A7 GND (power), B3 GND (power), B4 GND (power), B5 GND (power), B6 GND (power), C1 GND (power), C3 GND (power), C4 VCCIO2 (power), C7 GND (power), D1 GND (power), D3 VCCIO1 (power), D4 GND (power), D5 VCCIO2 (power), D6 VCCINT (power), D7 GND (power), E1 GND (power), E3 VCCIO1 (power), E4 GND (power), E5 GND (power), E6 GND (power), E7 GND (power), E8 GND (power), F2 GND (power), F4 GND (power), F7 GND (power), G2 GND (power), G4 GND (power), G5 GND (power), G6 GND (power)
part A text: BANK 1
part B text: BANK 2

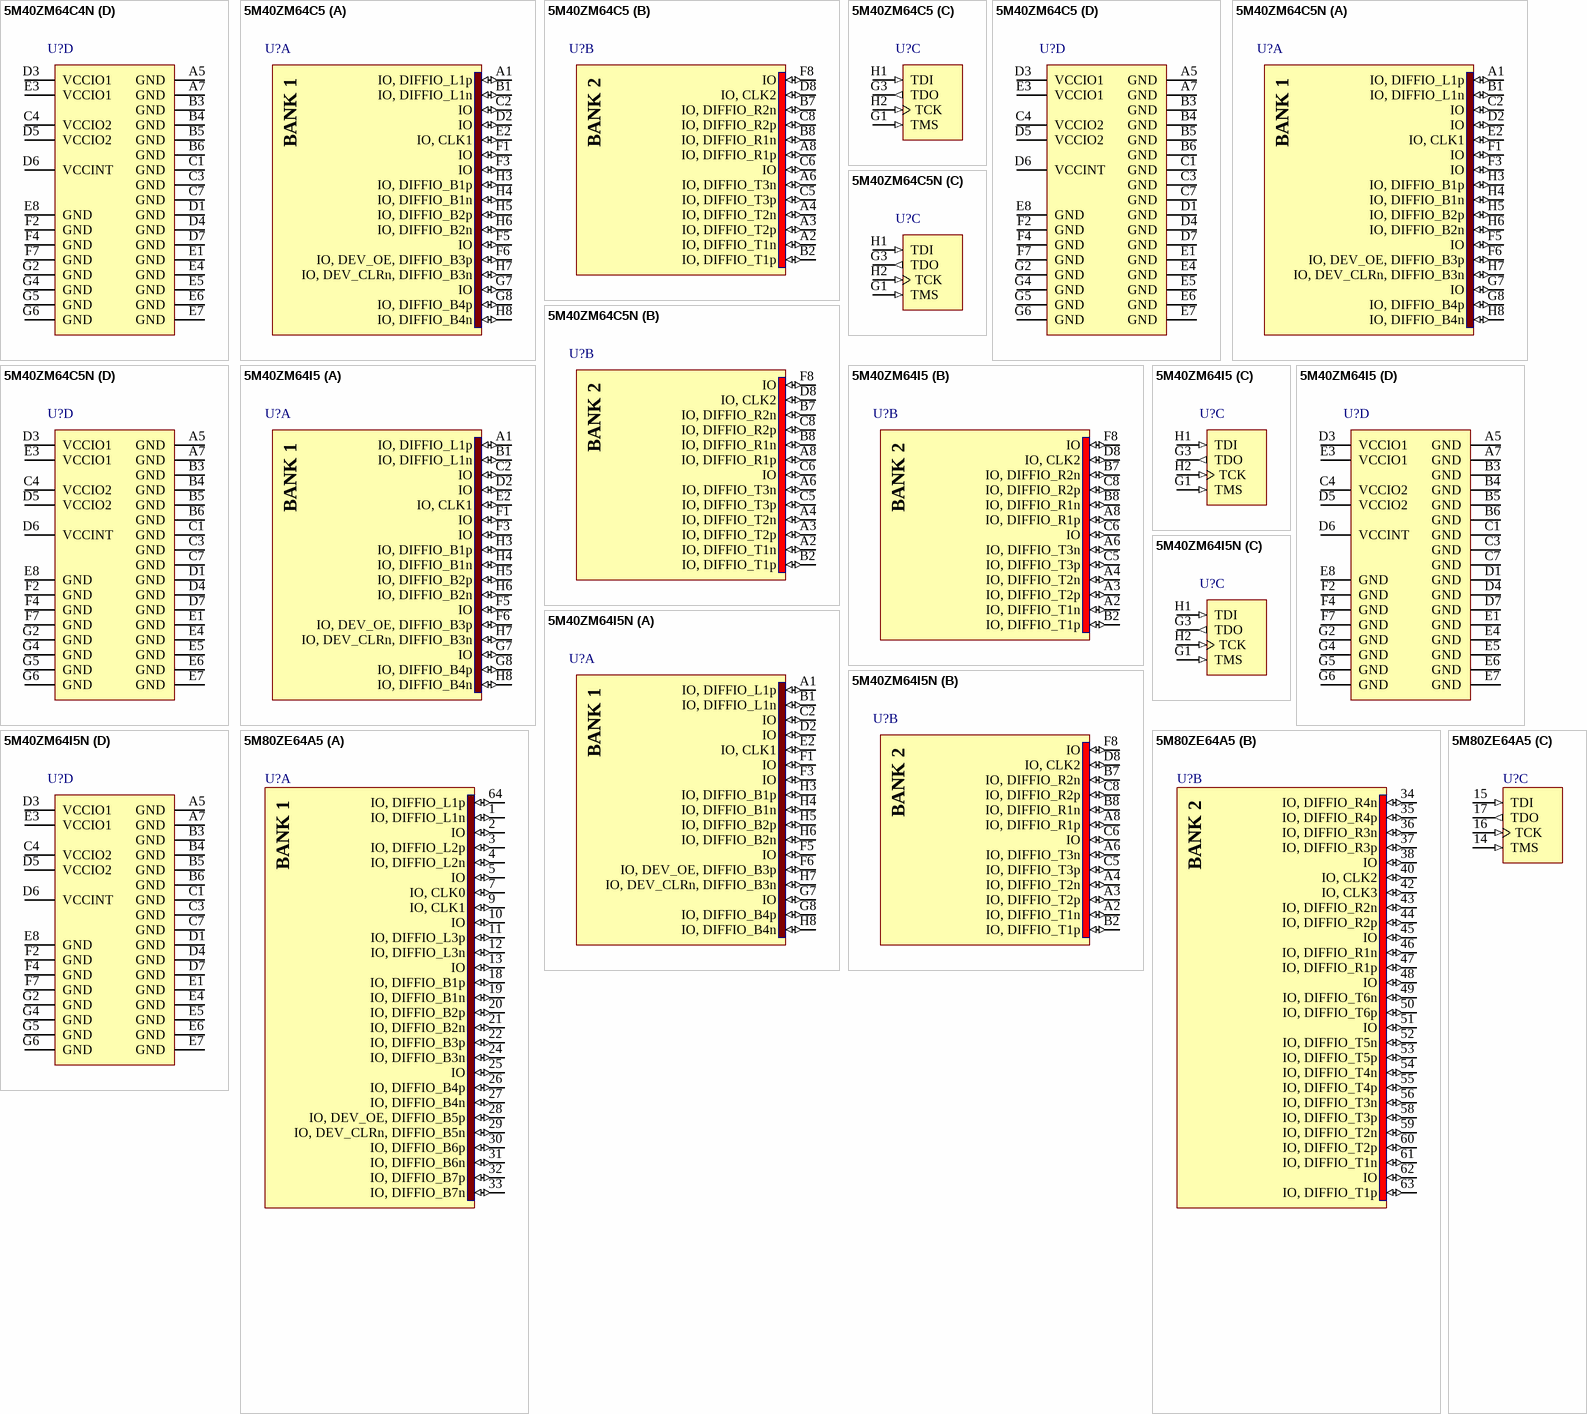
[diagram p2: symbols 5M40ZM64C4N to 5M80ZE64A5]

## 5M40ZM64C4N
designator U?
MAX V 1.8V CPLD, 30 IOs, 40 Logic Elements, 64-Pin MBGA, Commercial Temperature, Speed Grade 4, Pb-Free; DatasheetVersion: ver1.2, May-2011; PackageVersion: ver1.0, Jul-2011; PackageReference: MBGA64_A-120; PackageDescription: 64-Pin Micro FineLine Ball-Grid Array (MBGA) - Wire Bond - A:1.20; Code_JEDEC: MO-195-BX; ComponentLink1Description: Manufacturer URL; ComponentLink1URL: http://www.altera.com/; ComponentLink2Description: Datasheet; ComponentLink2URL: http://www.altera.com/literature/hb/max-v/max5_handbook.pdf; ComponentLink3Description: MAX V Device Pin-Out files; ComponentLink3URL: http://www.altera.com/literature/lit-dp.jsp?category=MAX%205&showspreadsheet=y; ComponentLink4Description: Package Specification; ComponentLink4URL: http://www.altera.com/devicepackaging/04R00385-01.pdf
footprint MBGA64_A-120 (BGA, 64-Leads, Body 4.5x4.5mm, Pitch 0.5mm, Non-Solder Mask Defined Pads)
part A pins: A1 IO, DIFFIO_L1p (io), B1 IO, DIFFIO_L1n (io), C2 IO (io), D2 IO (io), E2 IO, CLK1 (io), F1 IO (io), F3 IO (io), F5 IO (io), F6 IO, DEV_OE, DIFFIO_B3p (io), G7 IO (io), G8 IO, DIFFIO_B4p (io), H3 IO, DIFFIO_B1p (io), H4 IO, DIFFIO_B1n (io), H5 IO, DIFFIO_B2p (io), H6 IO, DIFFIO_B2n (io), H7 IO, DEV_CLRn, DIFFIO_B3n (io), H8 IO, DIFFIO_B4n (io)
part B pins: A2 IO, DIFFIO_T1n (io), A3 IO, DIFFIO_T2p (io), A4 IO, DIFFIO_T2n (io), A6 IO, DIFFIO_T3n (io), A8 IO, DIFFIO_R1p (io), B2 IO, DIFFIO_T1p (io), B7 IO, DIFFIO_R2n (io), B8 IO, DIFFIO_R1n (io), C5 IO, DIFFIO_T3p (io), C6 IO (io), C8 IO, DIFFIO_R2p (io), D8 IO, CLK2 (io), F8 IO (io)
part C pins: G1 TMS (in), G3 TDO (out), H1 TDI (in), H2 TCK (in)
part D pins: A5 GND (power), A7 GND (power), B3 GND (power), B4 GND (power), B5 GND (power), B6 GND (power), C1 GND (power), C3 GND (power), C4 VCCIO2 (power), C7 GND (power), D1 GND (power), D3 VCCIO1 (power), D4 GND (power), D5 VCCIO2 (power), D6 VCCINT (power), D7 GND (power), E1 GND (power), E3 VCCIO1 (power), E4 GND (power), E5 GND (power), E6 GND (power), E7 GND (power), E8 GND (power), F2 GND (power), F4 GND (power), F7 GND (power), G2 GND (power), G4 GND (power), G5 GND (power), G6 GND (power)
part A text: BANK 1
part B text: BANK 2

## 5M40ZM64C5
designator U?
MAX V 1.8V CPLD, 30 IOs, 40 Logic Elements, 64-Pin MBGA, Commercial Temperature, Speed Grade 5; DatasheetVersion: ver1.2, May-2011; PackageVersion: ver1.0, Jul-2011; PackageReference: MBGA64_A-120; PackageDescription: 64-Pin Micro FineLine Ball-Grid Array (MBGA) - Wire Bond - A:1.20; Code_JEDEC: MO-195-BX; ComponentLink1Description: Manufacturer URL; ComponentLink1URL: http://www.altera.com/; ComponentLink2Description: Datasheet; ComponentLink2URL: http://www.altera.com/literature/hb/max-v/max5_handbook.pdf; ComponentLink3Description: MAX V Device Pin-Out files; ComponentLink3URL: http://www.altera.com/literature/lit-dp.jsp?category=MAX%205&showspreadsheet=y; ComponentLink4Description: Package Specification; ComponentLink4URL: http://www.altera.com/devicepackaging/04R00385-01.pdf
footprint MBGA64_A-120 (BGA, 64-Leads, Body 4.5x4.5mm, Pitch 0.5mm, Non-Solder Mask Defined Pads)
part A pins: A1 IO, DIFFIO_L1p (io), B1 IO, DIFFIO_L1n (io), C2 IO (io), D2 IO (io), E2 IO, CLK1 (io), F1 IO (io), F3 IO (io), F5 IO (io), F6 IO, DEV_OE, DIFFIO_B3p (io), G7 IO (io), G8 IO, DIFFIO_B4p (io), H3 IO, DIFFIO_B1p (io), H4 IO, DIFFIO_B1n (io), H5 IO, DIFFIO_B2p (io), H6 IO, DIFFIO_B2n (io), H7 IO, DEV_CLRn, DIFFIO_B3n (io), H8 IO, DIFFIO_B4n (io)
part B pins: A2 IO, DIFFIO_T1n (io), A3 IO, DIFFIO_T2p (io), A4 IO, DIFFIO_T2n (io), A6 IO, DIFFIO_T3n (io), A8 IO, DIFFIO_R1p (io), B2 IO, DIFFIO_T1p (io), B7 IO, DIFFIO_R2n (io), B8 IO, DIFFIO_R1n (io), C5 IO, DIFFIO_T3p (io), C6 IO (io), C8 IO, DIFFIO_R2p (io), D8 IO, CLK2 (io), F8 IO (io)
part C pins: G1 TMS (in), G3 TDO (out), H1 TDI (in), H2 TCK (in)
part D pins: A5 GND (power), A7 GND (power), B3 GND (power), B4 GND (power), B5 GND (power), B6 GND (power), C1 GND (power), C3 GND (power), C4 VCCIO2 (power), C7 GND (power), D1 GND (power), D3 VCCIO1 (power), D4 GND (power), D5 VCCIO2 (power), D6 VCCINT (power), D7 GND (power), E1 GND (power), E3 VCCIO1 (power), E4 GND (power), E5 GND (power), E6 GND (power), E7 GND (power), E8 GND (power), F2 GND (power), F4 GND (power), F7 GND (power), G2 GND (power), G4 GND (power), G5 GND (power), G6 GND (power)
part A text: BANK 1
part B text: BANK 2

## 5M40ZM64C5N
designator U?
MAX V 1.8V CPLD, 30 IOs, 40 Logic Elements, 64-Pin MBGA, Commercial Temperature, Speed Grade 5, Pb-Free; DatasheetVersion: ver1.2, May-2011; PackageVersion: ver1.0, Jul-2011; PackageReference: MBGA64_A-120; PackageDescription: 64-Pin Micro FineLine Ball-Grid Array (MBGA) - Wire Bond - A:1.20; Code_JEDEC: MO-195-BX; ComponentLink1Description: Manufacturer URL; ComponentLink1URL: http://www.altera.com/; ComponentLink2Description: Datasheet; ComponentLink2URL: http://www.altera.com/literature/hb/max-v/max5_handbook.pdf; ComponentLink3Description: MAX V Device Pin-Out files; ComponentLink3URL: http://www.altera.com/literature/lit-dp.jsp?category=MAX%205&showspreadsheet=y; ComponentLink4Description: Package Specification; ComponentLink4URL: http://www.altera.com/devicepackaging/04R00385-01.pdf
footprint MBGA64_A-120 (BGA, 64-Leads, Body 4.5x4.5mm, Pitch 0.5mm, Non-Solder Mask Defined Pads)
part A pins: A1 IO, DIFFIO_L1p (io), B1 IO, DIFFIO_L1n (io), C2 IO (io), D2 IO (io), E2 IO, CLK1 (io), F1 IO (io), F3 IO (io), F5 IO (io), F6 IO, DEV_OE, DIFFIO_B3p (io), G7 IO (io), G8 IO, DIFFIO_B4p (io), H3 IO, DIFFIO_B1p (io), H4 IO, DIFFIO_B1n (io), H5 IO, DIFFIO_B2p (io), H6 IO, DIFFIO_B2n (io), H7 IO, DEV_CLRn, DIFFIO_B3n (io), H8 IO, DIFFIO_B4n (io)
part B pins: A2 IO, DIFFIO_T1n (io), A3 IO, DIFFIO_T2p (io), A4 IO, DIFFIO_T2n (io), A6 IO, DIFFIO_T3n (io), A8 IO, DIFFIO_R1p (io), B2 IO, DIFFIO_T1p (io), B7 IO, DIFFIO_R2n (io), B8 IO, DIFFIO_R1n (io), C5 IO, DIFFIO_T3p (io), C6 IO (io), C8 IO, DIFFIO_R2p (io), D8 IO, CLK2 (io), F8 IO (io)
part C pins: G1 TMS (in), G3 TDO (out), H1 TDI (in), H2 TCK (in)
part D pins: A5 GND (power), A7 GND (power), B3 GND (power), B4 GND (power), B5 GND (power), B6 GND (power), C1 GND (power), C3 GND (power), C4 VCCIO2 (power), C7 GND (power), D1 GND (power), D3 VCCIO1 (power), D4 GND (power), D5 VCCIO2 (power), D6 VCCINT (power), D7 GND (power), E1 GND (power), E3 VCCIO1 (power), E4 GND (power), E5 GND (power), E6 GND (power), E7 GND (power), E8 GND (power), F2 GND (power), F4 GND (power), F7 GND (power), G2 GND (power), G4 GND (power), G5 GND (power), G6 GND (power)
part A text: BANK 1
part B text: BANK 2

## 5M40ZM64I5
designator U?
MAX V 1.8V CPLD, 30 IOs, 40 Logic Elements, 64-Pin MBGA, Industrial Temperature, Speed Grade 5; DatasheetVersion: ver1.2, May-2011; PackageVersion: ver1.0, Jul-2011; PackageReference: MBGA64_A-120; PackageDescription: 64-Pin Micro FineLine Ball-Grid Array (MBGA) - Wire Bond - A:1.20; Code_JEDEC: MO-195-BX; ComponentLink1Description: Manufacturer URL; ComponentLink1URL: http://www.altera.com/; ComponentLink2Description: Datasheet; ComponentLink2URL: http://www.altera.com/literature/hb/max-v/max5_handbook.pdf; ComponentLink3Description: MAX V Device Pin-Out files; ComponentLink3URL: http://www.altera.com/literature/lit-dp.jsp?category=MAX%205&showspreadsheet=y; ComponentLink4Description: Package Specification; ComponentLink4URL: http://www.altera.com/devicepackaging/04R00385-01.pdf
footprint MBGA64_A-120 (BGA, 64-Leads, Body 4.5x4.5mm, Pitch 0.5mm, Non-Solder Mask Defined Pads)
part A pins: A1 IO, DIFFIO_L1p (io), B1 IO, DIFFIO_L1n (io), C2 IO (io), D2 IO (io), E2 IO, CLK1 (io), F1 IO (io), F3 IO (io), F5 IO (io), F6 IO, DEV_OE, DIFFIO_B3p (io), G7 IO (io), G8 IO, DIFFIO_B4p (io), H3 IO, DIFFIO_B1p (io), H4 IO, DIFFIO_B1n (io), H5 IO, DIFFIO_B2p (io), H6 IO, DIFFIO_B2n (io), H7 IO, DEV_CLRn, DIFFIO_B3n (io), H8 IO, DIFFIO_B4n (io)
part B pins: A2 IO, DIFFIO_T1n (io), A3 IO, DIFFIO_T2p (io), A4 IO, DIFFIO_T2n (io), A6 IO, DIFFIO_T3n (io), A8 IO, DIFFIO_R1p (io), B2 IO, DIFFIO_T1p (io), B7 IO, DIFFIO_R2n (io), B8 IO, DIFFIO_R1n (io), C5 IO, DIFFIO_T3p (io), C6 IO (io), C8 IO, DIFFIO_R2p (io), D8 IO, CLK2 (io), F8 IO (io)
part C pins: G1 TMS (in), G3 TDO (out), H1 TDI (in), H2 TCK (in)
part D pins: A5 GND (power), A7 GND (power), B3 GND (power), B4 GND (power), B5 GND (power), B6 GND (power), C1 GND (power), C3 GND (power), C4 VCCIO2 (power), C7 GND (power), D1 GND (power), D3 VCCIO1 (power), D4 GND (power), D5 VCCIO2 (power), D6 VCCINT (power), D7 GND (power), E1 GND (power), E3 VCCIO1 (power), E4 GND (power), E5 GND (power), E6 GND (power), E7 GND (power), E8 GND (power), F2 GND (power), F4 GND (power), F7 GND (power), G2 GND (power), G4 GND (power), G5 GND (power), G6 GND (power)
part A text: BANK 1
part B text: BANK 2

## 5M40ZM64I5N
designator U?
MAX V 1.8V CPLD, 30 IOs, 40 Logic Elements, 64-Pin MBGA, Industrial Temperature, Speed Grade 5, Pb-Free; DatasheetVersion: ver1.2, May-2011; PackageVersion: ver1.0, Jul-2011; PackageReference: MBGA64_A-120; PackageDescription: 64-Pin Micro FineLine Ball-Grid Array (MBGA) - Wire Bond - A:1.20; Code_JEDEC: MO-195-BX; ComponentLink1Description: Manufacturer URL; ComponentLink1URL: http://www.altera.com/; ComponentLink2Description: Datasheet; ComponentLink2URL: http://www.altera.com/literature/hb/max-v/max5_handbook.pdf; ComponentLink3Description: MAX V Device Pin-Out files; ComponentLink3URL: http://www.altera.com/literature/lit-dp.jsp?category=MAX%205&showspreadsheet=y; ComponentLink4Description: Package Specification; ComponentLink4URL: http://www.altera.com/devicepackaging/04R00385-01.pdf
footprint MBGA64_A-120 (BGA, 64-Leads, Body 4.5x4.5mm, Pitch 0.5mm, Non-Solder Mask Defined Pads)
part A pins: A1 IO, DIFFIO_L1p (io), B1 IO, DIFFIO_L1n (io), C2 IO (io), D2 IO (io), E2 IO, CLK1 (io), F1 IO (io), F3 IO (io), F5 IO (io), F6 IO, DEV_OE, DIFFIO_B3p (io), G7 IO (io), G8 IO, DIFFIO_B4p (io), H3 IO, DIFFIO_B1p (io), H4 IO, DIFFIO_B1n (io), H5 IO, DIFFIO_B2p (io), H6 IO, DIFFIO_B2n (io), H7 IO, DEV_CLRn, DIFFIO_B3n (io), H8 IO, DIFFIO_B4n (io)
part B pins: A2 IO, DIFFIO_T1n (io), A3 IO, DIFFIO_T2p (io), A4 IO, DIFFIO_T2n (io), A6 IO, DIFFIO_T3n (io), A8 IO, DIFFIO_R1p (io), B2 IO, DIFFIO_T1p (io), B7 IO, DIFFIO_R2n (io), B8 IO, DIFFIO_R1n (io), C5 IO, DIFFIO_T3p (io), C6 IO (io), C8 IO, DIFFIO_R2p (io), D8 IO, CLK2 (io), F8 IO (io)
part C pins: G1 TMS (in), G3 TDO (out), H1 TDI (in), H2 TCK (in)
part D pins: A5 GND (power), A7 GND (power), B3 GND (power), B4 GND (power), B5 GND (power), B6 GND (power), C1 GND (power), C3 GND (power), C4 VCCIO2 (power), C7 GND (power), D1 GND (power), D3 VCCIO1 (power), D4 GND (power), D5 VCCIO2 (power), D6 VCCINT (power), D7 GND (power), E1 GND (power), E3 VCCIO1 (power), E4 GND (power), E5 GND (power), E6 GND (power), E7 GND (power), E8 GND (power), F2 GND (power), F4 GND (power), F7 GND (power), G2 GND (power), G4 GND (power), G5 GND (power), G6 GND (power)
part A text: BANK 1
part B text: BANK 2

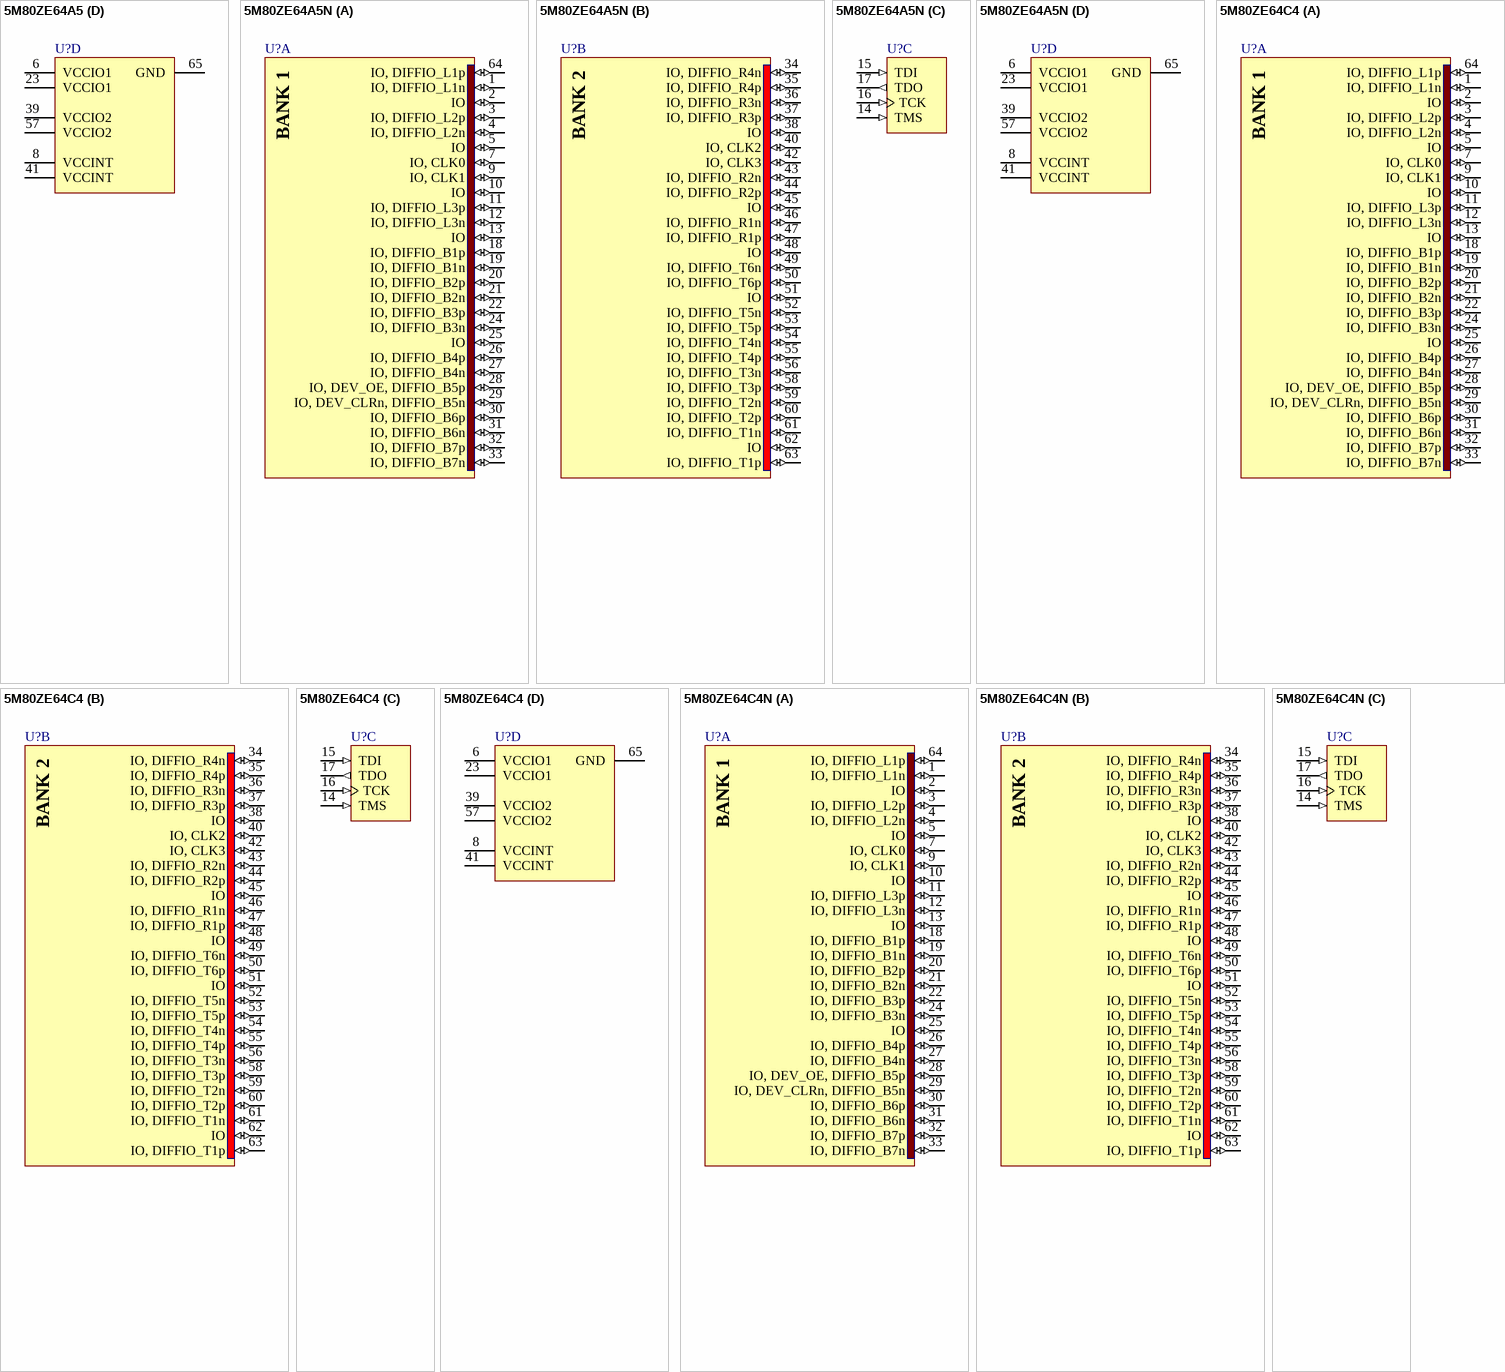
[diagram p3: symbols 5M80ZE64A5 to 5M80ZE64C4N]

## 5M80ZE64A5
designator U?
MAX V 1.8V CPLD, 54 IOs, 80 Logic Elements, 64-Pin EQFP, Automotive Temperature, Speed Grade 5; DatasheetVersion: ver1.2, May-2011; PackageVersion: ver1.0, Jul-2011; PackageReference: EQFP64_A-120_D2-45; PackageDescription: 64-Pin Plastic Enhanced Quad Flat (EQFP) - Wire Bond - A:1.20 - D2:4.5; Code_JEDEC: MS-026-ABD-HD; ComponentLink1Description: Manufacturer URL; ComponentLink1URL: http://www.altera.com/; ComponentLink2Description: Datasheet; ComponentLink2URL: http://www.altera.com/literature/hb/max-v/max5_handbook.pdf; ComponentLink3Description: MAX V Device Pin-Out files; ComponentLink3URL: http://www.altera.com/literature/lit-dp.jsp?category=MAX%205&showspreadsheet=y; ComponentLink4Description: Package Specification; ComponentLink4URL: http://www.altera.com/devicepackaging/04R00384-01.pdf
footprint EQFP64_A-120_D2-45_N (Thin QFP, 64-Leads, Body 7x7mm, Pitch 0.4mm, Thermal Pad, IPC Medium Density)
footprint EQFP64_A-120_D2-45_L (Thin QFP, 64-Leads, Body 7x7mm, Pitch 0.4mm, Thermal Pad, IPC High Density)
footprint EQFP64_A-120_D2-45_M (Thin QFP, 64-Leads, Body 7x7mm, Pitch 0.4mm, Thermal Pad, IPC Low Density)
part A pins: 1 IO, DIFFIO_L1n (io), 2 IO (io), 3 IO, DIFFIO_L2p (io), 4 IO, DIFFIO_L2n (io), 5 IO (io), 7 IO, CLK0 (io), 9 IO, CLK1 (io), 10 IO (io), 11 IO, DIFFIO_L3p (io), 12 IO, DIFFIO_L3n (io), 13 IO (io), 18 IO, DIFFIO_B1p (io), 19 IO, DIFFIO_B1n (io), 20 IO, DIFFIO_B2p (io), 21 IO, DIFFIO_B2n (io), 22 IO, DIFFIO_B3p (io), 24 IO, DIFFIO_B3n (io), 25 IO (io), 26 IO, DIFFIO_B4p (io), 27 IO, DIFFIO_B4n (io), 28 IO, DEV_OE, DIFFIO_B5p (io), 29 IO, DEV_CLRn, DIFFIO_B5n (io), 30 IO, DIFFIO_B6p (io), 31 IO, DIFFIO_B6n (io), 32 IO, DIFFIO_B7p (io), 33 IO, DIFFIO_B7n (io), 64 IO, DIFFIO_L1p (io)
part B pins: 34 IO, DIFFIO_R4n (io), 35 IO, DIFFIO_R4p (io), 36 IO, DIFFIO_R3n (io), 37 IO, DIFFIO_R3p (io), 38 IO (io), 40 IO, CLK2 (io), 42 IO, CLK3 (io), 43 IO, DIFFIO_R2n (io), 44 IO, DIFFIO_R2p (io), 45 IO (io), 46 IO, DIFFIO_R1n (io), 47 IO, DIFFIO_R1p (io), 48 IO (io), 49 IO, DIFFIO_T6n (io), 50 IO, DIFFIO_T6p (io), 51 IO (io), 52 IO, DIFFIO_T5n (io), 53 IO, DIFFIO_T5p (io), 54 IO, DIFFIO_T4n (io), 55 IO, DIFFIO_T4p (io), 56 IO, DIFFIO_T3n (io), 58 IO, DIFFIO_T3p (io), 59 IO, DIFFIO_T2n (io), 60 IO, DIFFIO_T2p (io), 61 IO, DIFFIO_T1n (io), 62 IO (io), 63 IO, DIFFIO_T1p (io)
part C pins: 14 TMS (in), 15 TDI (in), 16 TCK (in), 17 TDO (out)
part D pins: 6 VCCIO1 (power), 8 VCCINT (power), 23 VCCIO1 (power), 39 VCCIO2 (power), 41 VCCINT (power), 57 VCCIO2 (power), 65 GND (power)
part A text: BANK 1
part B text: BANK 2

## 5M80ZE64A5N
designator U?
MAX V 1.8V CPLD, 54 IOs, 80 Logic Elements, 64-Pin EQFP, Automotive Temperature, Speed Grade 5, Pb-Free; DatasheetVersion: ver1.2, May-2011; PackageVersion: ver1.0, Jul-2011; PackageReference: EQFP64_A-120_D2-45; PackageDescription: 64-Pin Plastic Enhanced Quad Flat (EQFP) - Wire Bond - A:1.20 - D2:4.5; Code_JEDEC: MS-026-ABD-HD; ComponentLink1Description: Manufacturer URL; ComponentLink1URL: http://www.altera.com/; ComponentLink2Description: Datasheet; ComponentLink2URL: http://www.altera.com/literature/hb/max-v/max5_handbook.pdf; ComponentLink3Description: MAX V Device Pin-Out files; ComponentLink3URL: http://www.altera.com/literature/lit-dp.jsp?category=MAX%205&showspreadsheet=y; ComponentLink4Description: Package Specification; ComponentLink4URL: http://www.altera.com/devicepackaging/04R00384-01.pdf
footprint EQFP64_A-120_D2-45_N (Thin QFP, 64-Leads, Body 7x7mm, Pitch 0.4mm, Thermal Pad, IPC Medium Density)
footprint EQFP64_A-120_D2-45_L (Thin QFP, 64-Leads, Body 7x7mm, Pitch 0.4mm, Thermal Pad, IPC High Density)
footprint EQFP64_A-120_D2-45_M (Thin QFP, 64-Leads, Body 7x7mm, Pitch 0.4mm, Thermal Pad, IPC Low Density)
part A pins: 1 IO, DIFFIO_L1n (io), 2 IO (io), 3 IO, DIFFIO_L2p (io), 4 IO, DIFFIO_L2n (io), 5 IO (io), 7 IO, CLK0 (io), 9 IO, CLK1 (io), 10 IO (io), 11 IO, DIFFIO_L3p (io), 12 IO, DIFFIO_L3n (io), 13 IO (io), 18 IO, DIFFIO_B1p (io), 19 IO, DIFFIO_B1n (io), 20 IO, DIFFIO_B2p (io), 21 IO, DIFFIO_B2n (io), 22 IO, DIFFIO_B3p (io), 24 IO, DIFFIO_B3n (io), 25 IO (io), 26 IO, DIFFIO_B4p (io), 27 IO, DIFFIO_B4n (io), 28 IO, DEV_OE, DIFFIO_B5p (io), 29 IO, DEV_CLRn, DIFFIO_B5n (io), 30 IO, DIFFIO_B6p (io), 31 IO, DIFFIO_B6n (io), 32 IO, DIFFIO_B7p (io), 33 IO, DIFFIO_B7n (io), 64 IO, DIFFIO_L1p (io)
part B pins: 34 IO, DIFFIO_R4n (io), 35 IO, DIFFIO_R4p (io), 36 IO, DIFFIO_R3n (io), 37 IO, DIFFIO_R3p (io), 38 IO (io), 40 IO, CLK2 (io), 42 IO, CLK3 (io), 43 IO, DIFFIO_R2n (io), 44 IO, DIFFIO_R2p (io), 45 IO (io), 46 IO, DIFFIO_R1n (io), 47 IO, DIFFIO_R1p (io), 48 IO (io), 49 IO, DIFFIO_T6n (io), 50 IO, DIFFIO_T6p (io), 51 IO (io), 52 IO, DIFFIO_T5n (io), 53 IO, DIFFIO_T5p (io), 54 IO, DIFFIO_T4n (io), 55 IO, DIFFIO_T4p (io), 56 IO, DIFFIO_T3n (io), 58 IO, DIFFIO_T3p (io), 59 IO, DIFFIO_T2n (io), 60 IO, DIFFIO_T2p (io), 61 IO, DIFFIO_T1n (io), 62 IO (io), 63 IO, DIFFIO_T1p (io)
part C pins: 14 TMS (in), 15 TDI (in), 16 TCK (in), 17 TDO (out)
part D pins: 6 VCCIO1 (power), 8 VCCINT (power), 23 VCCIO1 (power), 39 VCCIO2 (power), 41 VCCINT (power), 57 VCCIO2 (power), 65 GND (power)
part A text: BANK 1
part B text: BANK 2

## 5M80ZE64C4
designator U?
MAX V 1.8V CPLD, 54 IOs, 80 Logic Elements, 64-Pin EQFP, Commercial Temperature, Speed Grade 4; DatasheetVersion: ver1.2, May-2011; PackageVersion: ver1.0, Jul-2011; PackageReference: EQFP64_A-120_D2-45; PackageDescription: 64-Pin Plastic Enhanced Quad Flat (EQFP) - Wire Bond - A:1.20 - D2:4.5; Code_JEDEC: MS-026-ABD-HD; ComponentLink1Description: Manufacturer URL; ComponentLink1URL: http://www.altera.com/; ComponentLink2Description: Datasheet; ComponentLink2URL: http://www.altera.com/literature/hb/max-v/max5_handbook.pdf; ComponentLink3Description: MAX V Device Pin-Out files; ComponentLink3URL: http://www.altera.com/literature/lit-dp.jsp?category=MAX%205&showspreadsheet=y; ComponentLink4Description: Package Specification; ComponentLink4URL: http://www.altera.com/devicepackaging/04R00384-01.pdf
footprint EQFP64_A-120_D2-45_N (Thin QFP, 64-Leads, Body 7x7mm, Pitch 0.4mm, Thermal Pad, IPC Medium Density)
footprint EQFP64_A-120_D2-45_L (Thin QFP, 64-Leads, Body 7x7mm, Pitch 0.4mm, Thermal Pad, IPC High Density)
footprint EQFP64_A-120_D2-45_M (Thin QFP, 64-Leads, Body 7x7mm, Pitch 0.4mm, Thermal Pad, IPC Low Density)
part A pins: 1 IO, DIFFIO_L1n (io), 2 IO (io), 3 IO, DIFFIO_L2p (io), 4 IO, DIFFIO_L2n (io), 5 IO (io), 7 IO, CLK0 (io), 9 IO, CLK1 (io), 10 IO (io), 11 IO, DIFFIO_L3p (io), 12 IO, DIFFIO_L3n (io), 13 IO (io), 18 IO, DIFFIO_B1p (io), 19 IO, DIFFIO_B1n (io), 20 IO, DIFFIO_B2p (io), 21 IO, DIFFIO_B2n (io), 22 IO, DIFFIO_B3p (io), 24 IO, DIFFIO_B3n (io), 25 IO (io), 26 IO, DIFFIO_B4p (io), 27 IO, DIFFIO_B4n (io), 28 IO, DEV_OE, DIFFIO_B5p (io), 29 IO, DEV_CLRn, DIFFIO_B5n (io), 30 IO, DIFFIO_B6p (io), 31 IO, DIFFIO_B6n (io), 32 IO, DIFFIO_B7p (io), 33 IO, DIFFIO_B7n (io), 64 IO, DIFFIO_L1p (io)
part B pins: 34 IO, DIFFIO_R4n (io), 35 IO, DIFFIO_R4p (io), 36 IO, DIFFIO_R3n (io), 37 IO, DIFFIO_R3p (io), 38 IO (io), 40 IO, CLK2 (io), 42 IO, CLK3 (io), 43 IO, DIFFIO_R2n (io), 44 IO, DIFFIO_R2p (io), 45 IO (io), 46 IO, DIFFIO_R1n (io), 47 IO, DIFFIO_R1p (io), 48 IO (io), 49 IO, DIFFIO_T6n (io), 50 IO, DIFFIO_T6p (io), 51 IO (io), 52 IO, DIFFIO_T5n (io), 53 IO, DIFFIO_T5p (io), 54 IO, DIFFIO_T4n (io), 55 IO, DIFFIO_T4p (io), 56 IO, DIFFIO_T3n (io), 58 IO, DIFFIO_T3p (io), 59 IO, DIFFIO_T2n (io), 60 IO, DIFFIO_T2p (io), 61 IO, DIFFIO_T1n (io), 62 IO (io), 63 IO, DIFFIO_T1p (io)
part C pins: 14 TMS (in), 15 TDI (in), 16 TCK (in), 17 TDO (out)
part D pins: 6 VCCIO1 (power), 8 VCCINT (power), 23 VCCIO1 (power), 39 VCCIO2 (power), 41 VCCINT (power), 57 VCCIO2 (power), 65 GND (power)
part A text: BANK 1
part B text: BANK 2

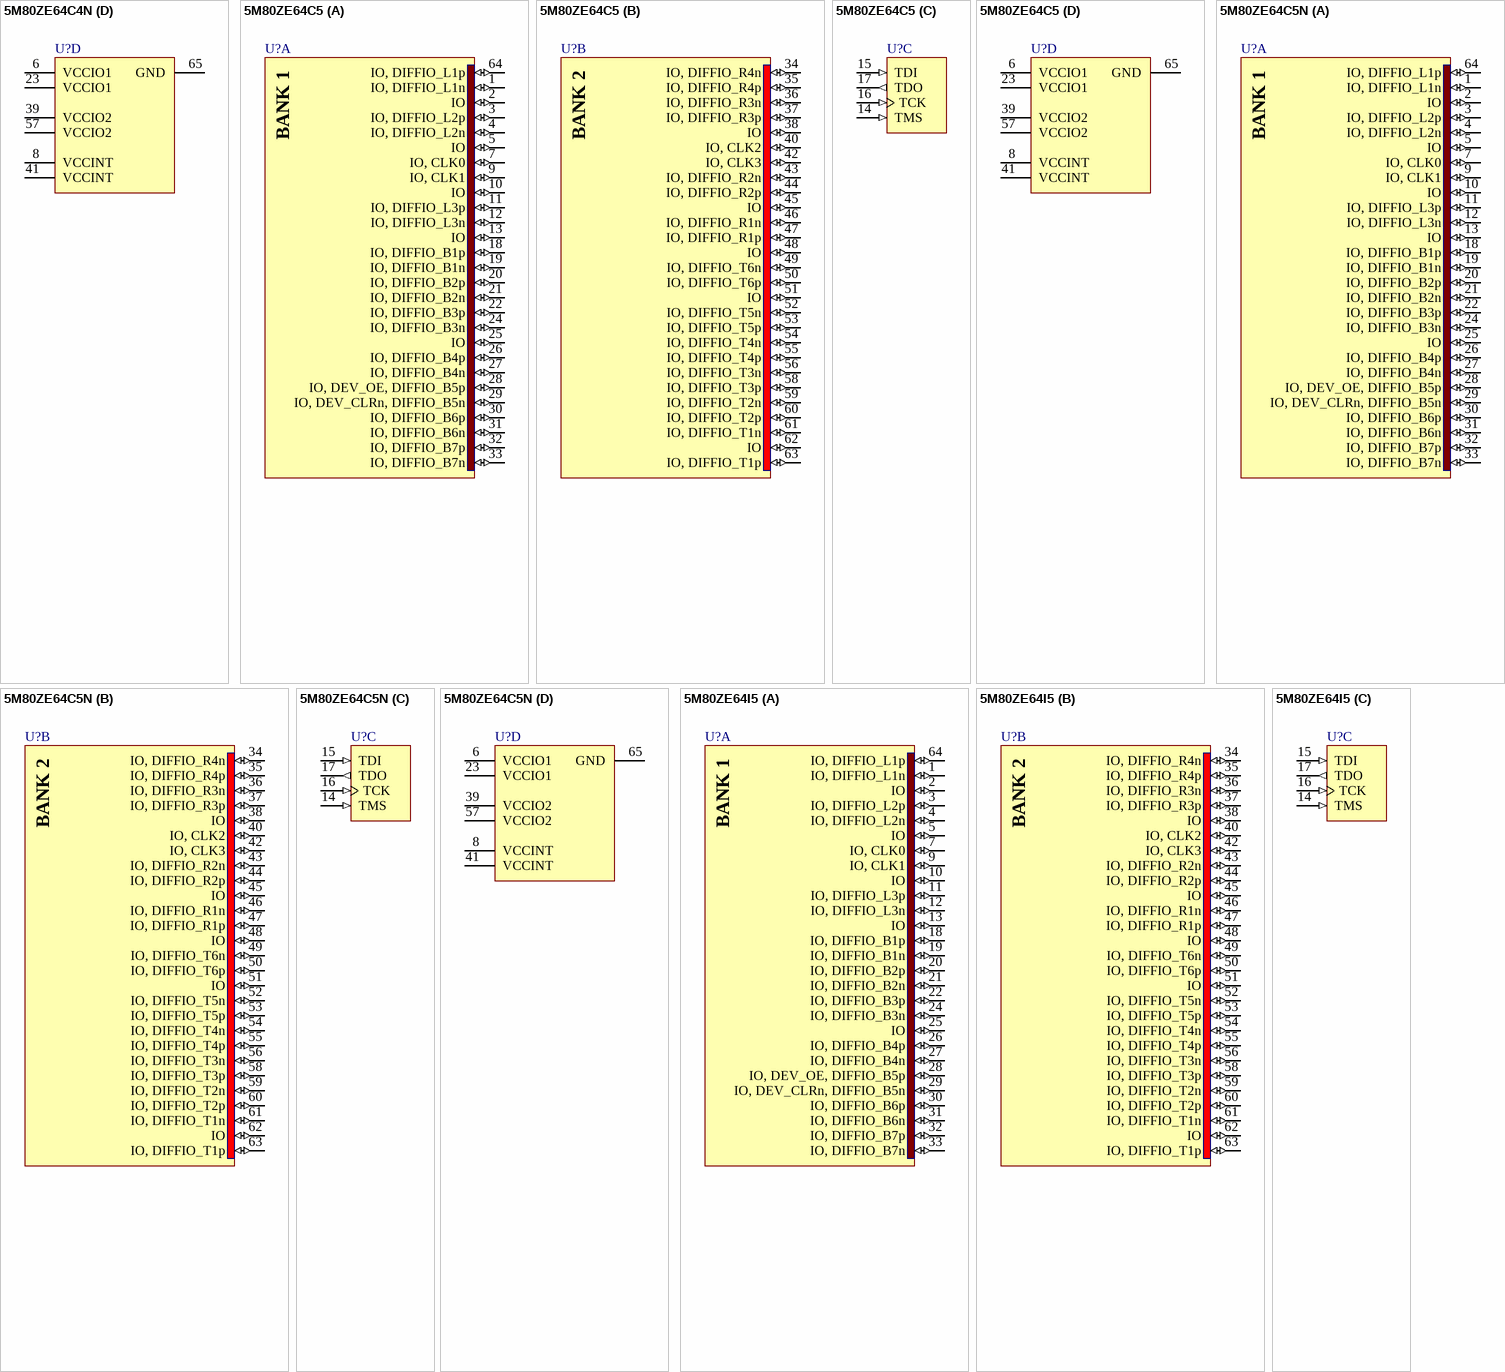
[diagram p4: symbols 5M80ZE64C4N to 5M80ZE64I5]

## 5M80ZE64C4N
designator U?
MAX V 1.8V CPLD, 54 IOs, 80 Logic Elements, 64-Pin EQFP, Commercial Temperature, Speed Grade 4, Pb-Free; DatasheetVersion: ver1.2, May-2011; PackageVersion: ver1.0, Jul-2011; PackageReference: EQFP64_A-120_D2-45; PackageDescription: 64-Pin Plastic Enhanced Quad Flat (EQFP) - Wire Bond - A:1.20 - D2:4.5; Code_JEDEC: MS-026-ABD-HD; ComponentLink1Description: Manufacturer URL; ComponentLink1URL: http://www.altera.com/; ComponentLink2Description: Datasheet; ComponentLink2URL: http://www.altera.com/literature/hb/max-v/max5_handbook.pdf; ComponentLink3Description: MAX V Device Pin-Out files; ComponentLink3URL: http://www.altera.com/literature/lit-dp.jsp?category=MAX%205&showspreadsheet=y; ComponentLink4Description: Package Specification; ComponentLink4URL: http://www.altera.com/devicepackaging/04R00384-01.pdf
footprint EQFP64_A-120_D2-45_N (Thin QFP, 64-Leads, Body 7x7mm, Pitch 0.4mm, Thermal Pad, IPC Medium Density)
footprint EQFP64_A-120_D2-45_L (Thin QFP, 64-Leads, Body 7x7mm, Pitch 0.4mm, Thermal Pad, IPC High Density)
footprint EQFP64_A-120_D2-45_M (Thin QFP, 64-Leads, Body 7x7mm, Pitch 0.4mm, Thermal Pad, IPC Low Density)
part A pins: 1 IO, DIFFIO_L1n (io), 2 IO (io), 3 IO, DIFFIO_L2p (io), 4 IO, DIFFIO_L2n (io), 5 IO (io), 7 IO, CLK0 (io), 9 IO, CLK1 (io), 10 IO (io), 11 IO, DIFFIO_L3p (io), 12 IO, DIFFIO_L3n (io), 13 IO (io), 18 IO, DIFFIO_B1p (io), 19 IO, DIFFIO_B1n (io), 20 IO, DIFFIO_B2p (io), 21 IO, DIFFIO_B2n (io), 22 IO, DIFFIO_B3p (io), 24 IO, DIFFIO_B3n (io), 25 IO (io), 26 IO, DIFFIO_B4p (io), 27 IO, DIFFIO_B4n (io), 28 IO, DEV_OE, DIFFIO_B5p (io), 29 IO, DEV_CLRn, DIFFIO_B5n (io), 30 IO, DIFFIO_B6p (io), 31 IO, DIFFIO_B6n (io), 32 IO, DIFFIO_B7p (io), 33 IO, DIFFIO_B7n (io), 64 IO, DIFFIO_L1p (io)
part B pins: 34 IO, DIFFIO_R4n (io), 35 IO, DIFFIO_R4p (io), 36 IO, DIFFIO_R3n (io), 37 IO, DIFFIO_R3p (io), 38 IO (io), 40 IO, CLK2 (io), 42 IO, CLK3 (io), 43 IO, DIFFIO_R2n (io), 44 IO, DIFFIO_R2p (io), 45 IO (io), 46 IO, DIFFIO_R1n (io), 47 IO, DIFFIO_R1p (io), 48 IO (io), 49 IO, DIFFIO_T6n (io), 50 IO, DIFFIO_T6p (io), 51 IO (io), 52 IO, DIFFIO_T5n (io), 53 IO, DIFFIO_T5p (io), 54 IO, DIFFIO_T4n (io), 55 IO, DIFFIO_T4p (io), 56 IO, DIFFIO_T3n (io), 58 IO, DIFFIO_T3p (io), 59 IO, DIFFIO_T2n (io), 60 IO, DIFFIO_T2p (io), 61 IO, DIFFIO_T1n (io), 62 IO (io), 63 IO, DIFFIO_T1p (io)
part C pins: 14 TMS (in), 15 TDI (in), 16 TCK (in), 17 TDO (out)
part D pins: 6 VCCIO1 (power), 8 VCCINT (power), 23 VCCIO1 (power), 39 VCCIO2 (power), 41 VCCINT (power), 57 VCCIO2 (power), 65 GND (power)
part A text: BANK 1
part B text: BANK 2